# Altium integrated library Actel ProASIC3L.IntLib: 248 symbols (part 39 of 41)
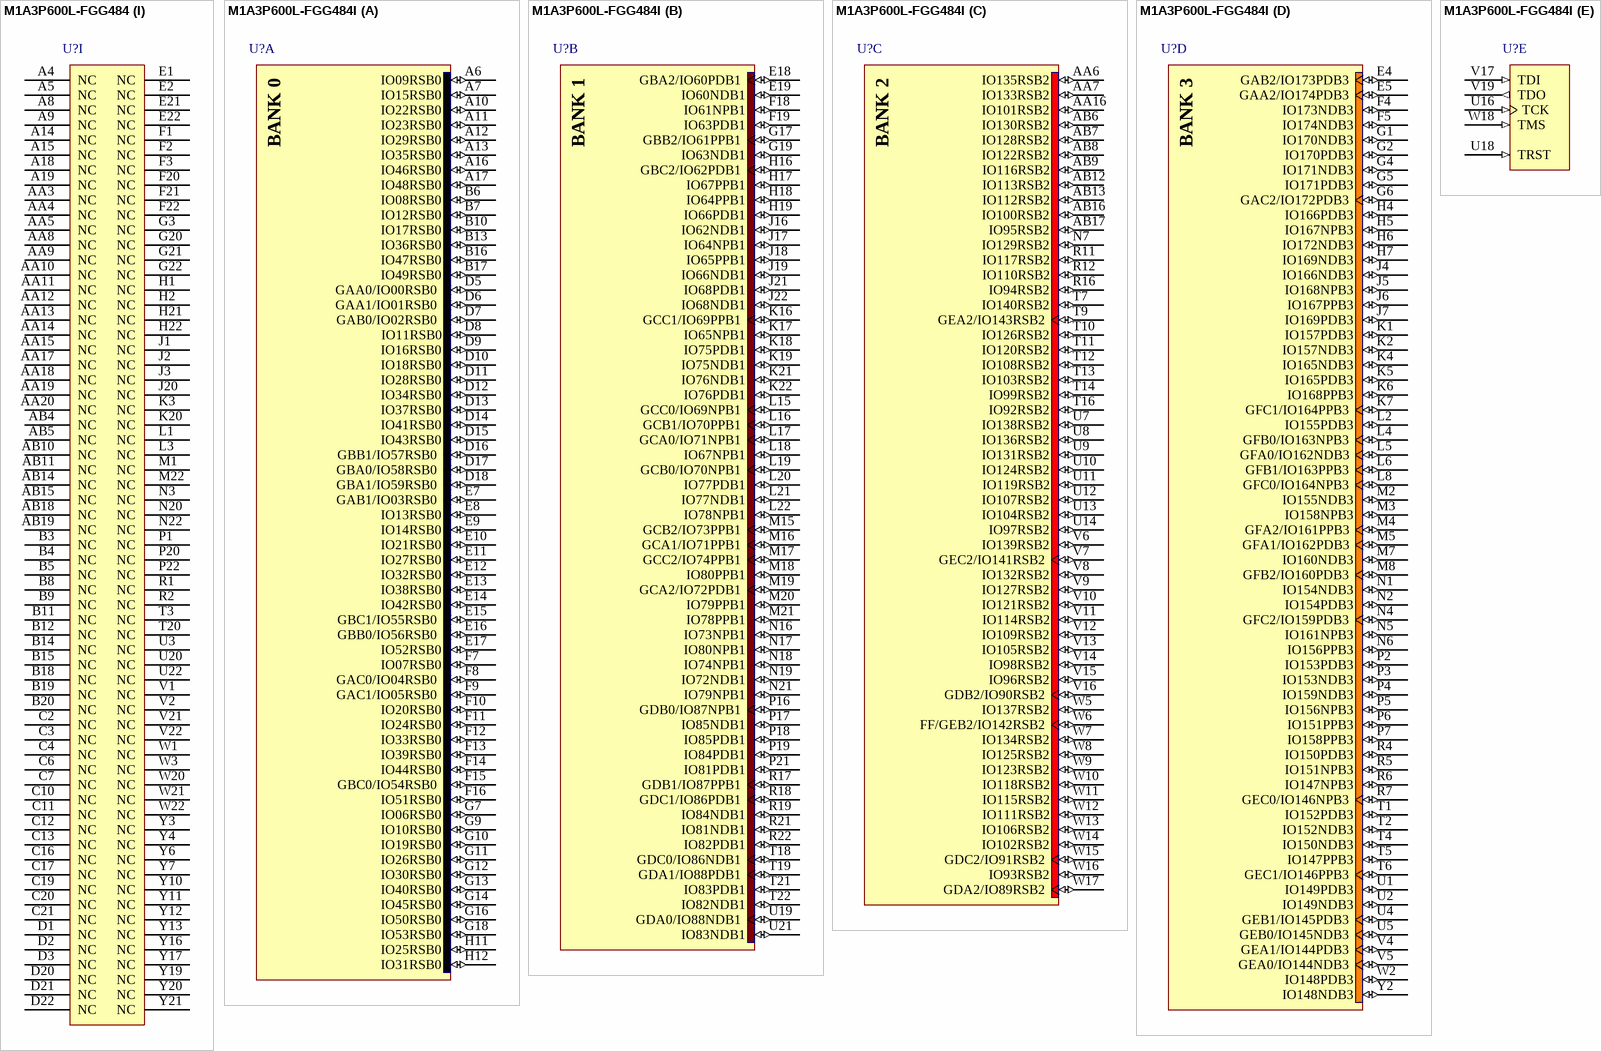
[diagram p236: symbols M1A3P600L-FGG484 to M1A3P600L-FGG484I]

## M1A3P600L-FGG484
designator U?
ProASIC3L Low-Power Flash Family FPGA, 235 User IOs, 600K System Gates, 108 Kbits RAM, 1 Kbit FlashROM, 1PLL, 484-Ball FBGA, Commercial Grade, Pb-Free; Published: 30-May-2008; DatasheetVersion: Jan-2008; PackageVersion: v10.0, Mar-2008; PackageReference: FG484; Publisher: Altium Limited; PackageDescription: 484-Ball Fine Pitch Plastic Ball Grid Array (FG484) - Fully Populated; Code_JEDEC: MS-034-AAJ-1; Code_IPC: BGA100P22X22-484; ComponentLink1Description: Manufacturer Link; ComponentLink1URL: http://www.actel.com/products/pa3l/default.aspx; ComponentLink2Description: Datasheet; ComponentLink2URL: http://www.actel.com/documents/PA3L_DS.pdf; ComponentLink3Description: Packaging Specification; ComponentLink3URL: http://www.actel.com/documents/PckgMechDrwngs.pdf
footprint FG484 (BGA, 484-Leads, Body 23x23mm, Pitch 1mm)
3D model M1A3P600L-FG484 (484-Ball Fine Pitch Plastic Ball Grid Array (FG484) - Fully Populated)
signal-integrity model A3P600L_FG484 (ProASIC3L)
part A pins: A6 IO09RSB0 (io), A7 IO15RSB0 (io), A10 IO22RSB0 (io), A11 IO23RSB0 (io), A12 IO29RSB0 (io), A13 IO35RSB0 (io), A16 IO46RSB0 (io), A17 IO48RSB0 (io), B6 IO08RSB0 (io), B7 IO12RSB0 (io), B10 IO17RSB0 (io), B13 IO36RSB0 (io), B16 IO47RSB0 (io), B17 IO49RSB0 (io), D5 GAA0/IO00RSB0 (io), D6 GAA1/IO01RSB0 (io), D7 GAB0/IO02RSB0 (io), D8 IO11RSB0 (io), D9 IO16RSB0 (io), D10 IO18RSB0 (io), D11 IO28RSB0 (io), D12 IO34RSB0 (io), D13 IO37RSB0 (io), D14 IO41RSB0 (io), D15 IO43RSB0 (io), D16 GBB1/IO57RSB0 (io), D17 GBA0/IO58RSB0 (io), D18 GBA1/IO59RSB0 (io), E7 GAB1/IO03RSB0 (io), E8 IO13RSB0 (io), E9 IO14RSB0 (io), E10 IO21RSB0 (io), E11 IO27RSB0 (io), E12 IO32RSB0 (io), E13 IO38RSB0 (io), E14 IO42RSB0 (io), E15 GBC1/IO55RSB0 (io), E16 GBB0/IO56RSB0 (io), E17 IO52RSB0 (io), F7 IO07RSB0 (io), F8 GAC0/IO04RSB0 (io), F9 GAC1/IO05RSB0 (io), F10 IO20RSB0 (io), F11 IO24RSB0 (io), F12 IO33RSB0 (io), F13 IO39RSB0 (io), F14 IO44RSB0 (io), F15 GBC0/IO54RSB0 (io), F16 IO51RSB0 (io), G7 IO06RSB0 (io), G9 IO10RSB0 (io), G10 IO19RSB0 (io), G11 IO26RSB0 (io), G12 IO30RSB0 (io), G13 IO40RSB0 (io), G14 IO45RSB0 (io), G16 IO50RSB0 (io), G18 IO53RSB0 (io), H11 IO25RSB0 (io), H12 IO31RSB0 (io)
part B pins: E18 GBA2/IO60PDB1 (io), E19 IO60NDB1 (io), F18 IO61NPB1 (io), F19 IO63PDB1 (io), G17 GBB2/IO61PPB1 (io), G19 IO63NDB1 (io), H16 GBC2/IO62PDB1 (io), H17 IO67PPB1 (io), H18 IO64PPB1 (io), H19 IO66PDB1 (io), J16 IO62NDB1 (io), J17 IO64NPB1 (io), J18 IO65PPB1 (io), J19 IO66NDB1 (io), J21 IO68PDB1 (io), J22 IO68NDB1 (io), K16 GCC1/IO69PPB1 (io), K17 IO65NPB1 (io), K18 IO75PDB1 (io), K19 IO75NDB1 (io), K21 IO76NDB1 (io), K22 IO76PDB1 (io), L15 GCC0/IO69NPB1 (io), L16 GCB1/IO70PPB1 (io), L17 GCA0/IO71NPB1 (io), L18 IO67NPB1 (io), L19 GCB0/IO70NPB1 (io), L20 IO77PDB1 (io), L21 IO77NDB1 (io), L22 IO78NPB1 (io), M15 GCB2/IO73PPB1 (io), M16 GCA1/IO71PPB1 (io), M17 GCC2/IO74PPB1 (io), M18 IO80PPB1 (io), M19 GCA2/IO72PDB1 (io), M20 IO79PPB1 (io), M21 IO78PPB1 (io), N16 IO73NPB1 (io), N17 IO80NPB1 (io), N18 IO74NPB1 (io), N19 IO72NDB1 (io), N21 IO79NPB1 (io), P16 GDB0/IO87NPB1 (io), P17 IO85NDB1 (io), P18 IO85PDB1 (io), P19 IO84PDB1 (io), P21 IO81PDB1 (io), R17 GDB1/IO87PPB1 (io), R18 GDC1/IO86PDB1 (io), R19 IO84NDB1 (io), R21 IO81NDB1 (io), R22 IO82PDB1 (io), T18 GDC0/IO86NDB1 (io), T19 GDA1/IO88PDB1 (io), T21 IO83PDB1 (io), T22 IO82NDB1 (io), U19 GDA0/IO88NDB1 (io), U21 IO83NDB1 (io)
part C pins: AA6 IO135RSB2 (io), AA7 IO133RSB2 (io), AA16 IO101RSB2 (io), AB6 IO130RSB2 (io), AB7 IO128RSB2 (io), AB8 IO122RSB2 (io), AB9 IO116RSB2 (io), AB12 IO113RSB2 (io), AB13 IO112RSB2 (io), AB16 IO100RSB2 (io), AB17 IO95RSB2 (io), N7 IO129RSB2 (io), R11 IO117RSB2 (io), R12 IO110RSB2 (io), R16 IO94RSB2 (io), T7 IO140RSB2 (io), T9 GEA2/IO143RSB2 (io), T10 IO126RSB2 (io), T11 IO120RSB2 (io), T12 IO108RSB2 (io), T13 IO103RSB2 (io), T14 IO99RSB2 (io), T16 IO92RSB2 (io), U7 IO138RSB2 (io), U8 IO136RSB2 (io), U9 IO131RSB2 (io), U10 IO124RSB2 (io), U11 IO119RSB2 (io), U12 IO107RSB2 (io), U13 IO104RSB2 (io), U14 IO97RSB2 (io), V6 IO139RSB2 (io), V7 GEC2/IO141RSB2 (io), V8 IO132RSB2 (io), V9 IO127RSB2 (io), V10 IO121RSB2 (io), V11 IO114RSB2 (io), V12 IO109RSB2 (io), V13 IO105RSB2 (io), V14 IO98RSB2 (io), V15 IO96RSB2 (io), V16 GDB2/IO90RSB2 (io), W5 IO137RSB2 (io), W6 FF/GEB2/IO142RSB2 (io), W7 IO134RSB2 (io), W8 IO125RSB2 (io), W9 IO123RSB2 (io), W10 IO118RSB2 (io), W11 IO115RSB2 (io), W12 IO111RSB2 (io), W13 IO106RSB2 (io), W14 IO102RSB2 (io), W15 GDC2/IO91RSB2 (io), W16 IO93RSB2 (io), W17 GDA2/IO89RSB2 (io)
part D pins: E4 GAB2/IO173PDB3 (io), E5 GAA2/IO174PDB3 (io), F4 IO173NDB3 (io), F5 IO174NDB3 (io), G1 IO170NDB3 (io), G2 IO170PDB3 (io), G4 IO171NDB3 (io), G5 IO171PDB3 (io), G6 GAC2/IO172PDB3 (io), H4 IO166PDB3 (io), H5 IO167NPB3 (io), H6 IO172NDB3 (io), H7 IO169NDB3 (io), J4 IO166NDB3 (io), J5 IO168NPB3 (io), J6 IO167PPB3 (io), J7 IO169PDB3 (io), K1 IO157PDB3 (io), K2 IO157NDB3 (io), K4 IO165NDB3 (io), K5 IO165PDB3 (io), K6 IO168PPB3 (io), K7 GFC1/IO164PPB3 (io), L2 IO155PDB3 (io), L4 GFB0/IO163NPB3 (io), L5 GFA0/IO162NDB3 (io), L6 GFB1/IO163PPB3 (io), L8 GFC0/IO164NPB3 (io), M2 IO155NDB3 (io), M3 IO158NPB3 (io), M4 GFA2/IO161PPB3 (io), M5 GFA1/IO162PDB3 (io), M7 IO160NDB3 (io), M8 GFB2/IO160PDB3 (io), N1 IO154NDB3 (io), N2 IO154PDB3 (io), N4 GFC2/IO159PDB3 (io), N5 IO161NPB3 (io), N6 IO156PPB3 (io), P2 IO153PDB3 (io), P3 IO153NDB3 (io), P4 IO159NDB3 (io), P5 IO156NPB3 (io), P6 IO151PPB3 (io), P7 IO158PPB3 (io), R4 IO150PDB3 (io), R5 IO151NPB3 (io), R6 IO147NPB3 (io), R7 GEC0/IO146NPB3 (io), T1 IO152PDB3 (io), T2 IO152NDB3 (io), T4 IO150NDB3 (io), T5 IO147PPB3 (io), T6 GEC1/IO146PPB3 (io), U1 IO149PDB3 (io), U2 IO149NDB3 (io), U4 GEB1/IO145PDB3 (io), U5 GEB0/IO145NDB3 (io), V4 GEA1/IO144PDB3 (io), V5 GEA0/IO144NDB3 (io), W2 IO148PDB3 (io), Y2 IO148NDB3 (io)
part E pins: U16 TCK (in), U18 TRST (in), V17 TDI (in), V19 TDO (out), W18 TMS (in)
part F pins: A3 VCCIB0 (power), A20 VCCIB0 (power), AA2 VCCIB3 (power), AA21 VCCIB1 (power), AB3 VCCIB2 (power), AB20 VCCIB2 (power), B2 VCCIB3 (power), B21 VCCIB1 (power), C1 VCCIB3 (power), C8 VCC (power), C9 VCC (power), C14 VCC (power), C15 VCC (power), C22 VCCIB1 (power), F6 VMV3 (power), F17 VMV0 (power), H3 VCC (power), H8 VMV0 (power), H9 VCCIB0 (power), H10 VCCIB0 (power), H13 VCCIB0 (power), H14 VCCIB0 (power), H15 VMV1 (power), H20 VCC (power), J8 VCCIB3 (power), J10 VCC (power), J11 VCC (power), J12 VCC (power), J13 VCC (power), J15 VCCIB1 (power), K8 VCCIB3 (power), K9 VCC (power), K14 VCC (power), K15 VvB1 (power), L9 VCC (power), L14 VCC (power), M9 VCC (power), M14 VCC (power), N8 VCCIB3 (power), N9 VCC (power), N14 VCC (power), N15 VCCIB1 (power), P8 VCCIB3 (power), P10 VCC (power), P11 VCC (power), P12 VCC (power), P13 VCC (power), P15 VCCIB1 (power), R3 VCC (power), R8 VMV3 (power), R9 VCCIB2 (power), R10 VCCIB2 (power), R13 VCCIB2 (power), R14 VCCIB2 (power), R15 VMV2 (power), R20 VCC (power), T17 VJTAG (power), U6 VMV2 (power), U15 VMV1 (power), U17 VPUMP (power), Y1 VCCIB3 (power), Y8 VCC (power), Y9 VCC (power), Y14 VCC (power), Y15 VCC (power), Y22 VCCIB1 (power)
part G pins: A1 GND (power), A2 GND (power), A21 GND (power), A22 GND (power), AA1 GND (power), AA22 GND (power), AB1 GND (power), AB2 GND (power), AB21 GND (power), AB22 GND (power), B1 GND (power), B22 GND (power), C5 GND (power), C18 GND (power), D4 GND (power), D19 GND (power), E3 GND (power), E6 GNDQ (power), E20 GND (power), G8 GNDQ (power), G15 GNDQ (power), J9 GND (power), J14 GND (power), K10 GND (power), K11 GND (power), K12 GND (power), K13 GND (power), L10 GND (power), L11 GND (power), L12 GND (power), L13 GND (power), M10 GND (power), M11 GND (power), M12 GND (power), M13 GND (power), N10 GND (power), N11 GND (power), N12 GND (power), N13 GND (power), P9 GND (power), P14 GND (power), T8 GNDQ (power), T15 GNDQ (power), V3 GND (power), V18 GNDQ (power), V20 GND (power), W4 GND (power), W19 GND (power), Y5 GND (power), Y18 GND (power)
part H pins: L7 VCOMPLF (power), M6 VCCPLF (power)
part I pins: A4 NC, A5 NC, A8 NC, A9 NC, A14 NC, A15 NC, A18 NC, A19 NC, AA3 NC, AA4 NC, AA5 NC, AA8 NC, AA9 NC, AA10 NC, AA11 NC, AA12 NC, AA13 NC, AA14 NC, AA15 NC, AA17 NC, AA18 NC, AA19 NC, AA20 NC, AB4 NC, AB5 NC, AB10 NC, AB11 NC, AB14 NC, AB15 NC, AB18 NC, AB19 NC, B3 NC, B4 NC, B5 NC, B8 NC, B9 NC, B11 NC, B12 NC, B14 NC, B15 NC, B18 NC, B19 NC, B20 NC, C2 NC, C3 NC, C4 NC, C6 NC, C7 NC, C10 NC, C11 NC, C12 NC, C13 NC, C16 NC, C17 NC, C19 NC, C20 NC, C21 NC, D1 NC, D2 NC, D3 NC, D20 NC, D21 NC, D22 NC, E1 NC, E2 NC, E21 NC, E22 NC, F1 NC, F2 NC, F3 NC, F20 NC, F21 NC, F22 NC, G3 NC, G20 NC, G21 NC, G22 NC, H1 NC, H2 NC, H21 NC, H22 NC, J1 NC, J2 NC, J3 NC, J20 NC, K3 NC, K20 NC, L1 NC, L3 NC, M1 NC, M22 NC, N3 NC, N20 NC, N22 NC, P1 NC, P20 NC, P22 NC, R1 NC, R2 NC, T3 NC, T20 NC, U3 NC, U20 NC, U22 NC, V1 NC, V2 NC, V21 NC, V22 NC, W1 NC, W3 NC, W20 NC, W21 NC, W22 NC, Y3 NC, Y4 NC, Y6 NC, Y7 NC, Y10 NC, Y11 NC, Y12 NC, Y13 NC, Y16 NC, Y17 NC, Y19 NC, Y20 NC, Y21 NC
part A text: BANK 0
part B text: BANK 1
part C text: BANK 2
part D text: BANK 3

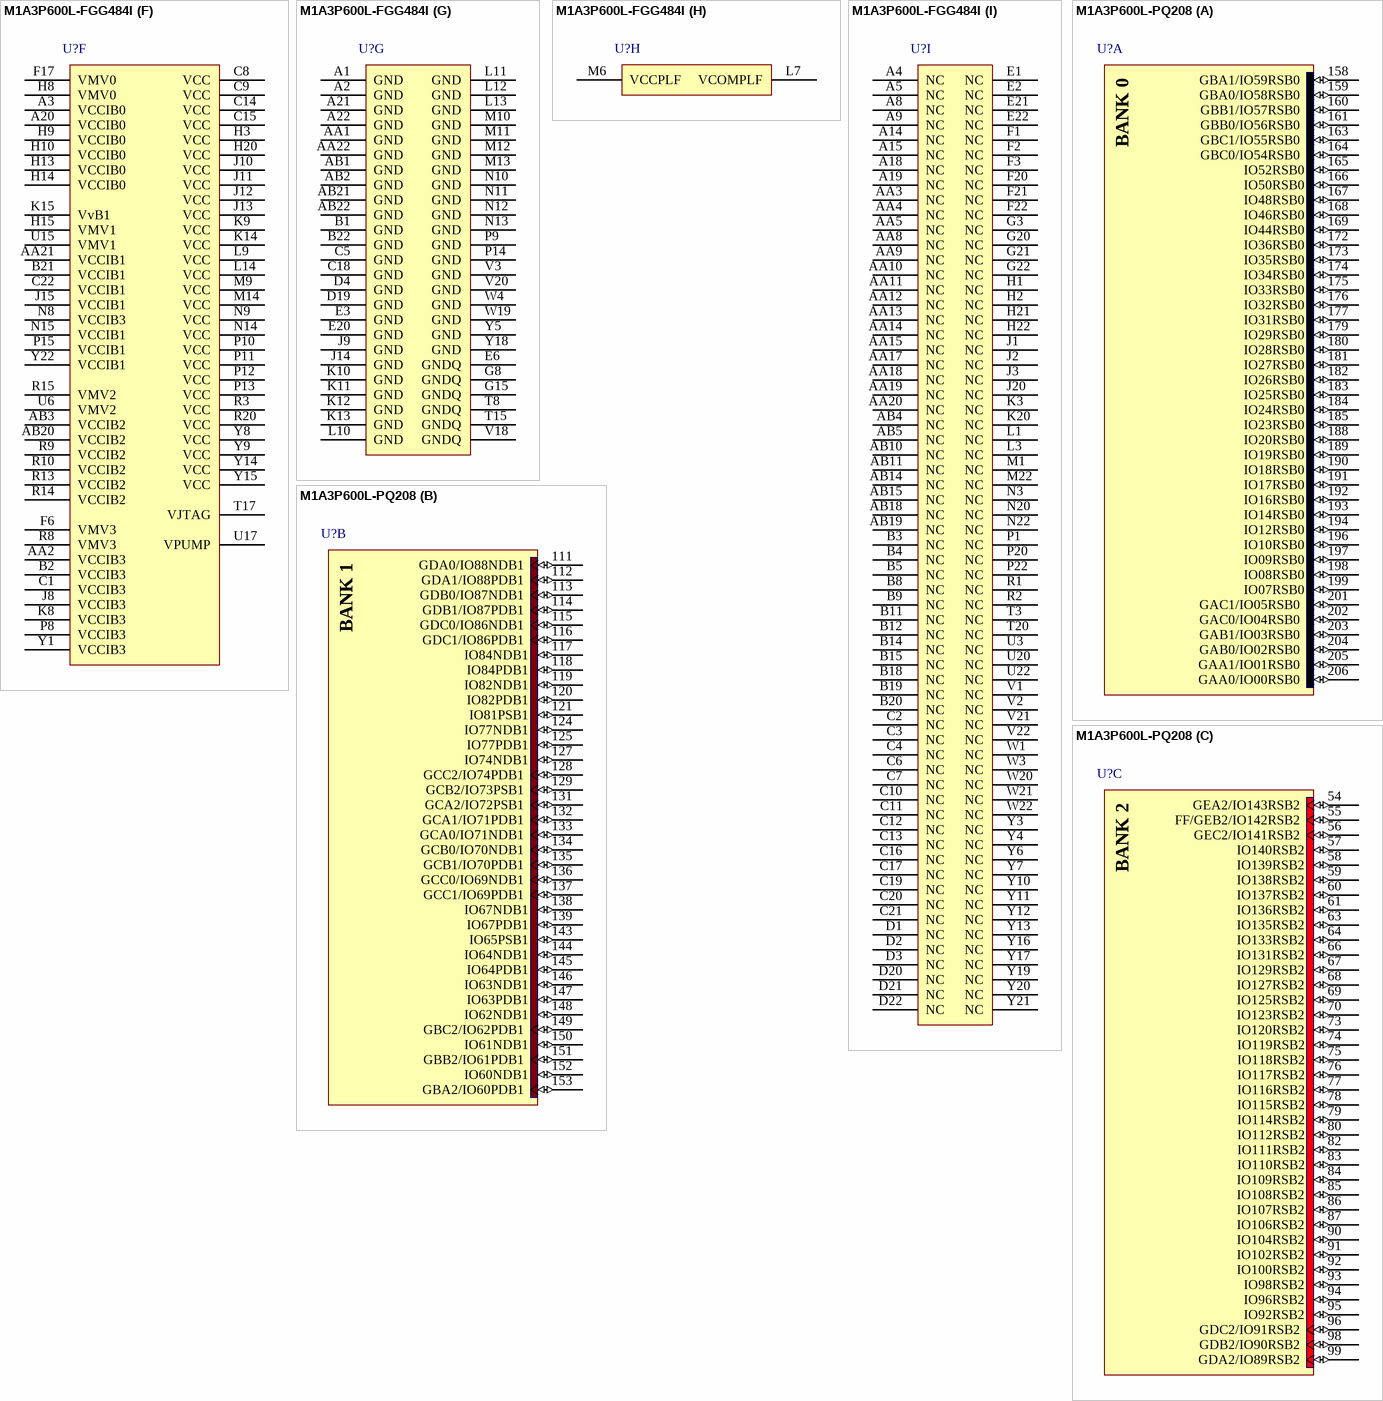
[diagram p143: symbols M1A3P600L-FGG484I to M1A3P600L-PQ208]

## M1A3P600L-FGG484I
designator U?
ProASIC3L Low-Power Flash Family FPGA, 235 User IOs, 600K System Gates, 108 Kbits RAM, 1 Kbit FlashROM, 1PLL, 484-Ball FBGA, Industrial Grade, Pb-Free; Published: 30-May-2008; DatasheetVersion: Jan-2008; PackageVersion: v10.0, Mar-2008; PackageReference: FG484; Publisher: Altium Limited; PackageDescription: 484-Ball Fine Pitch Plastic Ball Grid Array (FG484) - Fully Populated; Code_JEDEC: MS-034-AAJ-1; Code_IPC: BGA100P22X22-484; ComponentLink1Description: Manufacturer Link; ComponentLink1URL: http://www.actel.com/products/pa3l/default.aspx; ComponentLink2Description: Datasheet; ComponentLink2URL: http://www.actel.com/documents/PA3L_DS.pdf; ComponentLink3Description: Packaging Specification; ComponentLink3URL: http://www.actel.com/documents/PckgMechDrwngs.pdf
footprint FG484 (BGA, 484-Leads, Body 23x23mm, Pitch 1mm)
3D model M1A3P600L-FG484 (484-Ball Fine Pitch Plastic Ball Grid Array (FG484) - Fully Populated)
signal-integrity model A3P600L_FG484 (ProASIC3L)
part A pins: A6 IO09RSB0 (io), A7 IO15RSB0 (io), A10 IO22RSB0 (io), A11 IO23RSB0 (io), A12 IO29RSB0 (io), A13 IO35RSB0 (io), A16 IO46RSB0 (io), A17 IO48RSB0 (io), B6 IO08RSB0 (io), B7 IO12RSB0 (io), B10 IO17RSB0 (io), B13 IO36RSB0 (io), B16 IO47RSB0 (io), B17 IO49RSB0 (io), D5 GAA0/IO00RSB0 (io), D6 GAA1/IO01RSB0 (io), D7 GAB0/IO02RSB0 (io), D8 IO11RSB0 (io), D9 IO16RSB0 (io), D10 IO18RSB0 (io), D11 IO28RSB0 (io), D12 IO34RSB0 (io), D13 IO37RSB0 (io), D14 IO41RSB0 (io), D15 IO43RSB0 (io), D16 GBB1/IO57RSB0 (io), D17 GBA0/IO58RSB0 (io), D18 GBA1/IO59RSB0 (io), E7 GAB1/IO03RSB0 (io), E8 IO13RSB0 (io), E9 IO14RSB0 (io), E10 IO21RSB0 (io), E11 IO27RSB0 (io), E12 IO32RSB0 (io), E13 IO38RSB0 (io), E14 IO42RSB0 (io), E15 GBC1/IO55RSB0 (io), E16 GBB0/IO56RSB0 (io), E17 IO52RSB0 (io), F7 IO07RSB0 (io), F8 GAC0/IO04RSB0 (io), F9 GAC1/IO05RSB0 (io), F10 IO20RSB0 (io), F11 IO24RSB0 (io), F12 IO33RSB0 (io), F13 IO39RSB0 (io), F14 IO44RSB0 (io), F15 GBC0/IO54RSB0 (io), F16 IO51RSB0 (io), G7 IO06RSB0 (io), G9 IO10RSB0 (io), G10 IO19RSB0 (io), G11 IO26RSB0 (io), G12 IO30RSB0 (io), G13 IO40RSB0 (io), G14 IO45RSB0 (io), G16 IO50RSB0 (io), G18 IO53RSB0 (io), H11 IO25RSB0 (io), H12 IO31RSB0 (io)
part B pins: E18 GBA2/IO60PDB1 (io), E19 IO60NDB1 (io), F18 IO61NPB1 (io), F19 IO63PDB1 (io), G17 GBB2/IO61PPB1 (io), G19 IO63NDB1 (io), H16 GBC2/IO62PDB1 (io), H17 IO67PPB1 (io), H18 IO64PPB1 (io), H19 IO66PDB1 (io), J16 IO62NDB1 (io), J17 IO64NPB1 (io), J18 IO65PPB1 (io), J19 IO66NDB1 (io), J21 IO68PDB1 (io), J22 IO68NDB1 (io), K16 GCC1/IO69PPB1 (io), K17 IO65NPB1 (io), K18 IO75PDB1 (io), K19 IO75NDB1 (io), K21 IO76NDB1 (io), K22 IO76PDB1 (io), L15 GCC0/IO69NPB1 (io), L16 GCB1/IO70PPB1 (io), L17 GCA0/IO71NPB1 (io), L18 IO67NPB1 (io), L19 GCB0/IO70NPB1 (io), L20 IO77PDB1 (io), L21 IO77NDB1 (io), L22 IO78NPB1 (io), M15 GCB2/IO73PPB1 (io), M16 GCA1/IO71PPB1 (io), M17 GCC2/IO74PPB1 (io), M18 IO80PPB1 (io), M19 GCA2/IO72PDB1 (io), M20 IO79PPB1 (io), M21 IO78PPB1 (io), N16 IO73NPB1 (io), N17 IO80NPB1 (io), N18 IO74NPB1 (io), N19 IO72NDB1 (io), N21 IO79NPB1 (io), P16 GDB0/IO87NPB1 (io), P17 IO85NDB1 (io), P18 IO85PDB1 (io), P19 IO84PDB1 (io), P21 IO81PDB1 (io), R17 GDB1/IO87PPB1 (io), R18 GDC1/IO86PDB1 (io), R19 IO84NDB1 (io), R21 IO81NDB1 (io), R22 IO82PDB1 (io), T18 GDC0/IO86NDB1 (io), T19 GDA1/IO88PDB1 (io), T21 IO83PDB1 (io), T22 IO82NDB1 (io), U19 GDA0/IO88NDB1 (io), U21 IO83NDB1 (io)
part C pins: AA6 IO135RSB2 (io), AA7 IO133RSB2 (io), AA16 IO101RSB2 (io), AB6 IO130RSB2 (io), AB7 IO128RSB2 (io), AB8 IO122RSB2 (io), AB9 IO116RSB2 (io), AB12 IO113RSB2 (io), AB13 IO112RSB2 (io), AB16 IO100RSB2 (io), AB17 IO95RSB2 (io), N7 IO129RSB2 (io), R11 IO117RSB2 (io), R12 IO110RSB2 (io), R16 IO94RSB2 (io), T7 IO140RSB2 (io), T9 GEA2/IO143RSB2 (io), T10 IO126RSB2 (io), T11 IO120RSB2 (io), T12 IO108RSB2 (io), T13 IO103RSB2 (io), T14 IO99RSB2 (io), T16 IO92RSB2 (io), U7 IO138RSB2 (io), U8 IO136RSB2 (io), U9 IO131RSB2 (io), U10 IO124RSB2 (io), U11 IO119RSB2 (io), U12 IO107RSB2 (io), U13 IO104RSB2 (io), U14 IO97RSB2 (io), V6 IO139RSB2 (io), V7 GEC2/IO141RSB2 (io), V8 IO132RSB2 (io), V9 IO127RSB2 (io), V10 IO121RSB2 (io), V11 IO114RSB2 (io), V12 IO109RSB2 (io), V13 IO105RSB2 (io), V14 IO98RSB2 (io), V15 IO96RSB2 (io), V16 GDB2/IO90RSB2 (io), W5 IO137RSB2 (io), W6 FF/GEB2/IO142RSB2 (io), W7 IO134RSB2 (io), W8 IO125RSB2 (io), W9 IO123RSB2 (io), W10 IO118RSB2 (io), W11 IO115RSB2 (io), W12 IO111RSB2 (io), W13 IO106RSB2 (io), W14 IO102RSB2 (io), W15 GDC2/IO91RSB2 (io), W16 IO93RSB2 (io), W17 GDA2/IO89RSB2 (io)
part D pins: E4 GAB2/IO173PDB3 (io), E5 GAA2/IO174PDB3 (io), F4 IO173NDB3 (io), F5 IO174NDB3 (io), G1 IO170NDB3 (io), G2 IO170PDB3 (io), G4 IO171NDB3 (io), G5 IO171PDB3 (io), G6 GAC2/IO172PDB3 (io), H4 IO166PDB3 (io), H5 IO167NPB3 (io), H6 IO172NDB3 (io), H7 IO169NDB3 (io), J4 IO166NDB3 (io), J5 IO168NPB3 (io), J6 IO167PPB3 (io), J7 IO169PDB3 (io), K1 IO157PDB3 (io), K2 IO157NDB3 (io), K4 IO165NDB3 (io), K5 IO165PDB3 (io), K6 IO168PPB3 (io), K7 GFC1/IO164PPB3 (io), L2 IO155PDB3 (io), L4 GFB0/IO163NPB3 (io), L5 GFA0/IO162NDB3 (io), L6 GFB1/IO163PPB3 (io), L8 GFC0/IO164NPB3 (io), M2 IO155NDB3 (io), M3 IO158NPB3 (io), M4 GFA2/IO161PPB3 (io), M5 GFA1/IO162PDB3 (io), M7 IO160NDB3 (io), M8 GFB2/IO160PDB3 (io), N1 IO154NDB3 (io), N2 IO154PDB3 (io), N4 GFC2/IO159PDB3 (io), N5 IO161NPB3 (io), N6 IO156PPB3 (io), P2 IO153PDB3 (io), P3 IO153NDB3 (io), P4 IO159NDB3 (io), P5 IO156NPB3 (io), P6 IO151PPB3 (io), P7 IO158PPB3 (io), R4 IO150PDB3 (io), R5 IO151NPB3 (io), R6 IO147NPB3 (io), R7 GEC0/IO146NPB3 (io), T1 IO152PDB3 (io), T2 IO152NDB3 (io), T4 IO150NDB3 (io), T5 IO147PPB3 (io), T6 GEC1/IO146PPB3 (io), U1 IO149PDB3 (io), U2 IO149NDB3 (io), U4 GEB1/IO145PDB3 (io), U5 GEB0/IO145NDB3 (io), V4 GEA1/IO144PDB3 (io), V5 GEA0/IO144NDB3 (io), W2 IO148PDB3 (io), Y2 IO148NDB3 (io)
part E pins: U16 TCK (in), U18 TRST (in), V17 TDI (in), V19 TDO (out), W18 TMS (in)
part F pins: A3 VCCIB0 (power), A20 VCCIB0 (power), AA2 VCCIB3 (power), AA21 VCCIB1 (power), AB3 VCCIB2 (power), AB20 VCCIB2 (power), B2 VCCIB3 (power), B21 VCCIB1 (power), C1 VCCIB3 (power), C8 VCC (power), C9 VCC (power), C14 VCC (power), C15 VCC (power), C22 VCCIB1 (power), F6 VMV3 (power), F17 VMV0 (power), H3 VCC (power), H8 VMV0 (power), H9 VCCIB0 (power), H10 VCCIB0 (power), H13 VCCIB0 (power), H14 VCCIB0 (power), H15 VMV1 (power), H20 VCC (power), J8 VCCIB3 (power), J10 VCC (power), J11 VCC (power), J12 VCC (power), J13 VCC (power), J15 VCCIB1 (power), K8 VCCIB3 (power), K9 VCC (power), K14 VCC (power), K15 VvB1 (power), L9 VCC (power), L14 VCC (power), M9 VCC (power), M14 VCC (power), N8 VCCIB3 (power), N9 VCC (power), N14 VCC (power), N15 VCCIB1 (power), P8 VCCIB3 (power), P10 VCC (power), P11 VCC (power), P12 VCC (power), P13 VCC (power), P15 VCCIB1 (power), R3 VCC (power), R8 VMV3 (power), R9 VCCIB2 (power), R10 VCCIB2 (power), R13 VCCIB2 (power), R14 VCCIB2 (power), R15 VMV2 (power), R20 VCC (power), T17 VJTAG (power), U6 VMV2 (power), U15 VMV1 (power), U17 VPUMP (power), Y1 VCCIB3 (power), Y8 VCC (power), Y9 VCC (power), Y14 VCC (power), Y15 VCC (power), Y22 VCCIB1 (power)
part G pins: A1 GND (power), A2 GND (power), A21 GND (power), A22 GND (power), AA1 GND (power), AA22 GND (power), AB1 GND (power), AB2 GND (power), AB21 GND (power), AB22 GND (power), B1 GND (power), B22 GND (power), C5 GND (power), C18 GND (power), D4 GND (power), D19 GND (power), E3 GND (power), E6 GNDQ (power), E20 GND (power), G8 GNDQ (power), G15 GNDQ (power), J9 GND (power), J14 GND (power), K10 GND (power), K11 GND (power), K12 GND (power), K13 GND (power), L10 GND (power), L11 GND (power), L12 GND (power), L13 GND (power), M10 GND (power), M11 GND (power), M12 GND (power), M13 GND (power), N10 GND (power), N11 GND (power), N12 GND (power), N13 GND (power), P9 GND (power), P14 GND (power), T8 GNDQ (power), T15 GNDQ (power), V3 GND (power), V18 GNDQ (power), V20 GND (power), W4 GND (power), W19 GND (power), Y5 GND (power), Y18 GND (power)
part H pins: L7 VCOMPLF (power), M6 VCCPLF (power)
part I pins: A4 NC, A5 NC, A8 NC, A9 NC, A14 NC, A15 NC, A18 NC, A19 NC, AA3 NC, AA4 NC, AA5 NC, AA8 NC, AA9 NC, AA10 NC, AA11 NC, AA12 NC, AA13 NC, AA14 NC, AA15 NC, AA17 NC, AA18 NC, AA19 NC, AA20 NC, AB4 NC, AB5 NC, AB10 NC, AB11 NC, AB14 NC, AB15 NC, AB18 NC, AB19 NC, B3 NC, B4 NC, B5 NC, B8 NC, B9 NC, B11 NC, B12 NC, B14 NC, B15 NC, B18 NC, B19 NC, B20 NC, C2 NC, C3 NC, C4 NC, C6 NC, C7 NC, C10 NC, C11 NC, C12 NC, C13 NC, C16 NC, C17 NC, C19 NC, C20 NC, C21 NC, D1 NC, D2 NC, D3 NC, D20 NC, D21 NC, D22 NC, E1 NC, E2 NC, E21 NC, E22 NC, F1 NC, F2 NC, F3 NC, F20 NC, F21 NC, F22 NC, G3 NC, G20 NC, G21 NC, G22 NC, H1 NC, H2 NC, H21 NC, H22 NC, J1 NC, J2 NC, J3 NC, J20 NC, K3 NC, K20 NC, L1 NC, L3 NC, M1 NC, M22 NC, N3 NC, N20 NC, N22 NC, P1 NC, P20 NC, P22 NC, R1 NC, R2 NC, T3 NC, T20 NC, U3 NC, U20 NC, U22 NC, V1 NC, V2 NC, V21 NC, V22 NC, W1 NC, W3 NC, W20 NC, W21 NC, W22 NC, Y3 NC, Y4 NC, Y6 NC, Y7 NC, Y10 NC, Y11 NC, Y12 NC, Y13 NC, Y16 NC, Y17 NC, Y19 NC, Y20 NC, Y21 NC
part A text: BANK 0
part B text: BANK 1
part C text: BANK 2
part D text: BANK 3

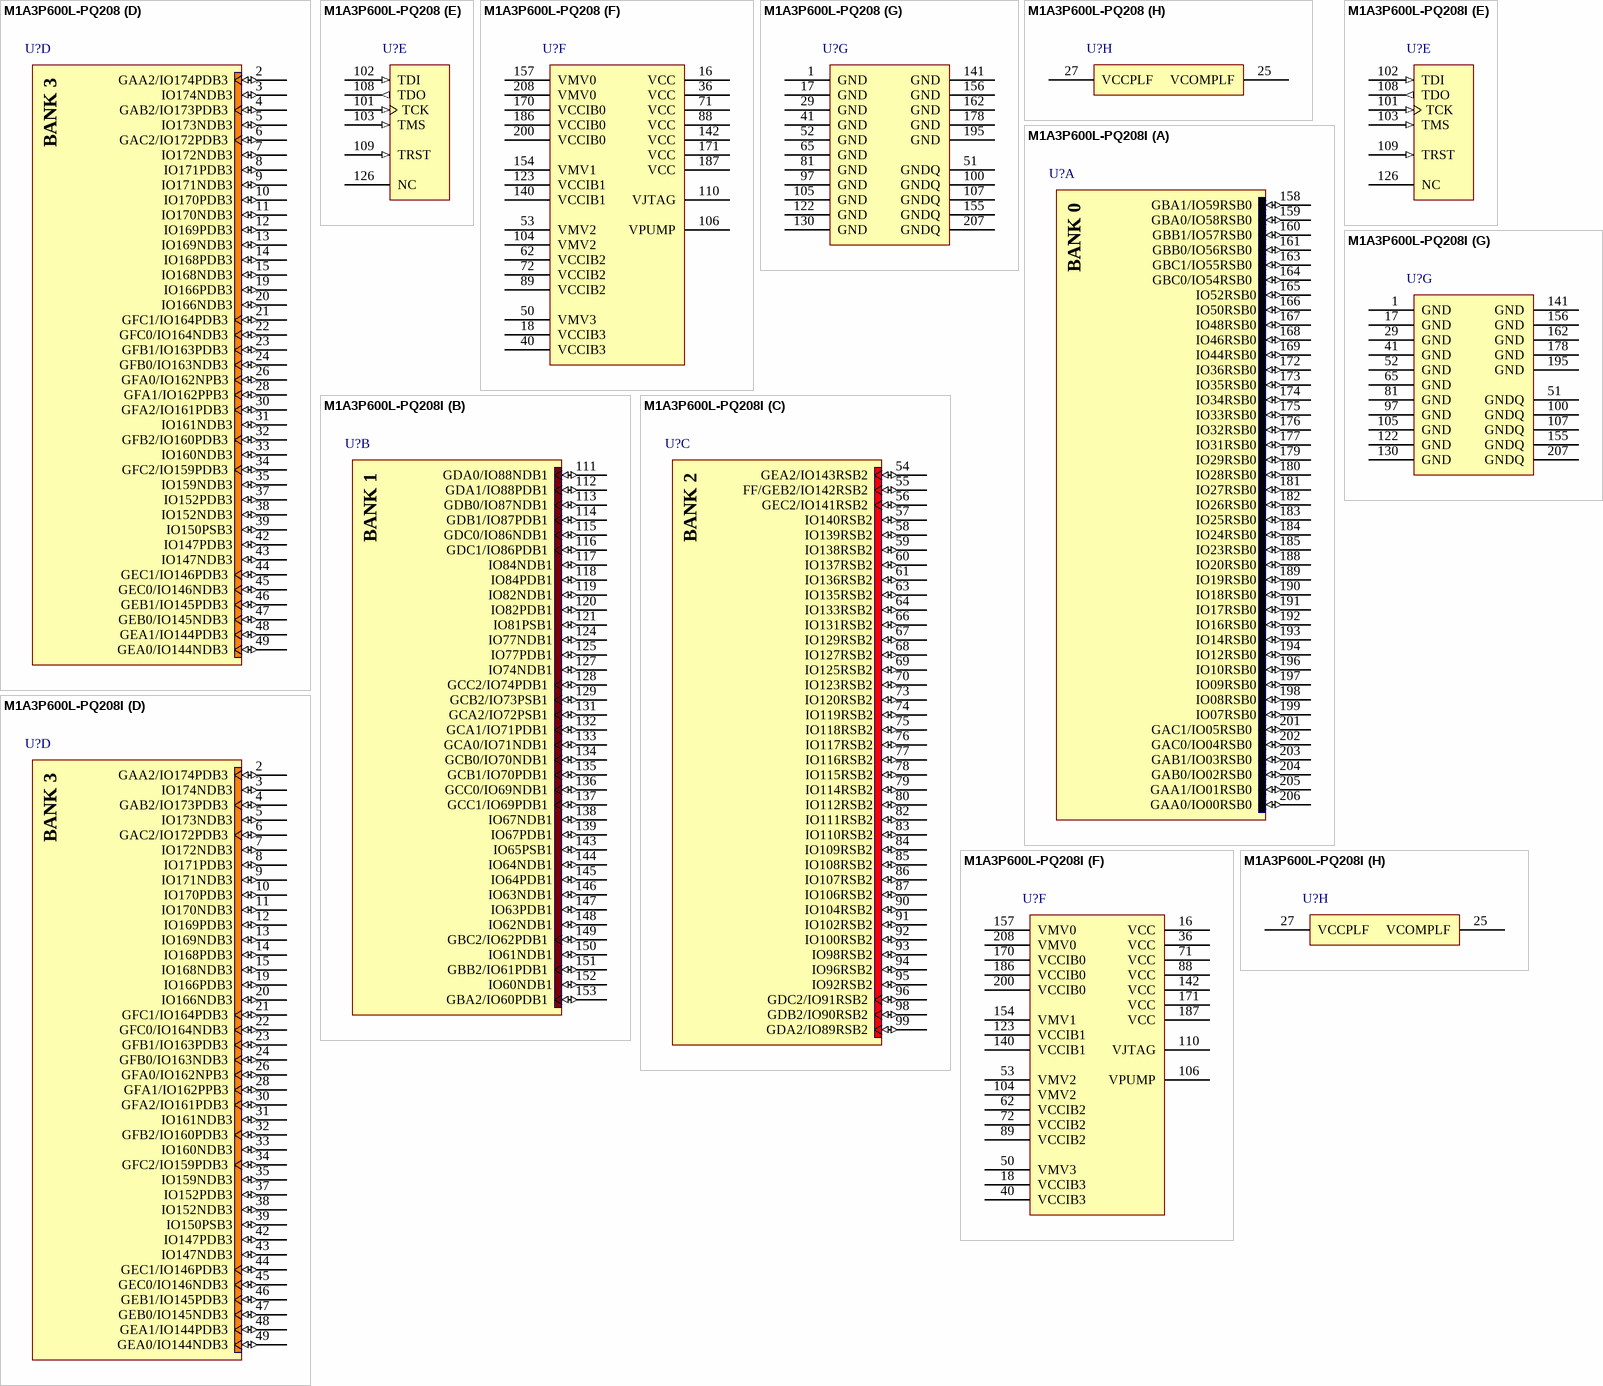
[diagram p144: symbols M1A3P600L-PQ208 to M1A3P600L-PQ208I]

## M1A3P600L-PQ208
designator U?
ProASIC3L Low-Power Flash Family FPGA, 154 User IOs, 600K System Gates, 108 Kbits RAM, 1 Kbit FlashROM, 1PLL, 208-Pin PQFP, Commercial Grade; Published: 30-May-2008; DatasheetVersion: Jan-2008; PackageVersion: v10.0, Mar-2008; PackageReference: PQ208; Publisher: Altium Limited; PackageDescription: 208-Pin Plastic Quad Flat Pack (PQ208); Code_JEDEC: MS-029-FA-1; ComponentLink1Description: Manufacturer Link; ComponentLink1URL: http://www.actel.com/products/pa3l/default.aspx; ComponentLink2Description: Datasheet; ComponentLink2URL: http://www.actel.com/documents/PA3L_DS.pdf; ComponentLink3Description: Packaging Specification; ComponentLink3URL: http://www.actel.com/documents/PckgMechDrwngs.pdf
footprint PQ208_N (Shrink QFP, 208-Leads, Body 28x28mm, Pitch 0.5mm, IPC Medium Density)
footprint PQ208_L (Shrink QFP, 208-Leads, Body 28x28mm, Pitch 0.5mm, IPC High Density)
footprint PQ208_M (Shrink QFP, 208-Leads, Body 28x28mm, Pitch 0.5mm, IPC Low Density)
3D model M1A3P600L-PQ208 (208-Pin Plastic Quad Flat Pack (PQ208))
signal-integrity model A3P600L_PQ208 (ProASIC3L)
part A pins: 158 GBA1/IO59RSB0 (io), 159 GBA0/IO58RSB0 (io), 160 GBB1/IO57RSB0 (io), 161 GBB0/IO56RSB0 (io), 163 GBC1/IO55RSB0 (io), 164 GBC0/IO54RSB0 (io), 165 IO52RSB0 (io), 166 IO50RSB0 (io), 167 IO48RSB0 (io), 168 IO46RSB0 (io), 169 IO44RSB0 (io), 172 IO36RSB0 (io), 173 IO35RSB0 (io), 174 IO34RSB0 (io), 175 IO33RSB0 (io), 176 IO32RSB0 (io), 177 IO31RSB0 (io), 179 IO29RSB0 (io), 180 IO28RSB0 (io), 181 IO27RSB0 (io), 182 IO26RSB0 (io), 183 IO25RSB0 (io), 184 IO24RSB0 (io), 185 IO23RSB0 (io), 188 IO20RSB0 (io), 189 IO19RSB0 (io), 190 IO18RSB0 (io), 191 IO17RSB0 (io), 192 IO16RSB0 (io), 193 IO14RSB0 (io), 194 IO12RSB0 (io), 196 IO10RSB0 (io), 197 IO09RSB0 (io), 198 IO08RSB0 (io), 199 IO07RSB0 (io), 201 GAC1/IO05RSB0 (io), 202 GAC0/IO04RSB0 (io), 203 GAB1/IO03RSB0 (io), 204 GAB0/IO02RSB0 (io), 205 GAA1/IO01RSB0 (io), 206 GAA0/IO00RSB0 (io)
part B pins: 111 GDA0/IO88NDB1 (io), 112 GDA1/IO88PDB1 (io), 113 GDB0/IO87NDB1 (io), 114 GDB1/IO87PDB1 (io), 115 GDC0/IO86NDB1 (io), 116 GDC1/IO86PDB1 (io), 117 IO84NDB1 (io), 118 IO84PDB1 (io), 119 IO82NDB1 (io), 120 IO82PDB1 (io), 121 IO81PSB1 (io), 124 IO77NDB1 (io), 125 IO77PDB1 (io), 127 IO74NDB1 (io), 128 GCC2/IO74PDB1 (io), 129 GCB2/IO73PSB1 (io), 131 GCA2/IO72PSB1 (io), 132 GCA1/IO71PDB1 (io), 133 GCA0/IO71NDB1 (io), 134 GCB0/IO70NDB1 (io), 135 GCB1/IO70PDB1 (io), 136 GCC0/IO69NDB1 (io), 137 GCC1/IO69PDB1 (io), 138 IO67NDB1 (io), 139 IO67PDB1 (io), 143 IO65PSB1 (io), 144 IO64NDB1 (io), 145 IO64PDB1 (io), 146 IO63NDB1 (io), 147 IO63PDB1 (io), 148 IO62NDB1 (io), 149 GBC2/IO62PDB1 (io), 150 IO61NDB1 (io), 151 GBB2/IO61PDB1 (io), 152 IO60NDB1 (io), 153 GBA2/IO60PDB1 (io)
part C pins: 54 GEA2/IO143RSB2 (io), 55 FF/GEB2/IO142RSB2 (io), 56 GEC2/IO141RSB2 (io), 57 IO140RSB2 (io), 58 IO139RSB2 (io), 59 IO138RSB2 (io), 60 IO137RSB2 (io), 61 IO136RSB2 (io), 63 IO135RSB2 (io), 64 IO133RSB2 (io), 66 IO131RSB2 (io), 67 IO129RSB2 (io), 68 IO127RSB2 (io), 69 IO125RSB2 (io), 70 IO123RSB2 (io), 73 IO120RSB2 (io), 74 IO119RSB2 (io), 75 IO118RSB2 (io), 76 IO117RSB2 (io), 77 IO116RSB2 (io), 78 IO115RSB2 (io), 79 IO114RSB2 (io), 80 IO112RSB2 (io), 82 IO111RSB2 (io), 83 IO110RSB2 (io), 84 IO109RSB2 (io), 85 IO108RSB2 (io), 86 IO107RSB2 (io), 87 IO106RSB2 (io), 90 IO104RSB2 (io), 91 IO102RSB2 (io), 92 IO100RSB2 (io), 93 IO98RSB2 (io), 94 IO96RSB2 (io), 95 IO92RSB2 (io), 96 GDC2/IO91RSB2 (io), 98 GDB2/IO90RSB2 (io), 99 GDA2/IO89RSB2 (io)
part D pins: 2 GAA2/IO174PDB3 (io), 3 IO174NDB3 (io), 4 GAB2/IO173PDB3 (io), 5 IO173NDB3 (io), 6 GAC2/IO172PDB3 (io), 7 IO172NDB3 (io), 8 IO171PDB3 (io), 9 IO171NDB3 (io), 10 IO170PDB3 (io), 11 IO170NDB3 (io), 12 IO169PDB3 (io), 13 IO169NDB3 (io), 14 IO168PDB3 (io), 15 IO168NDB3 (io), 19 IO166PDB3 (io), 20 IO166NDB3 (io), 21 GFC1/IO164PDB3 (io), 22 GFC0/IO164NDB3 (io), 23 GFB1/IO163PDB3 (io), 24 GFB0/IO163NDB3 (io), 26 GFA0/IO162NPB3 (io), 28 GFA1/IO162PPB3 (io), 30 GFA2/IO161PDB3 (io), 31 IO161NDB3 (io), 32 GFB2/IO160PDB3 (io), 33 IO160NDB3 (io), 34 GFC2/IO159PDB3 (io), 35 IO159NDB3 (io), 37 IO152PDB3 (io), 38 IO152NDB3 (io), 39 IO150PSB3 (io), 42 IO147PDB3 (io), 43 IO147NDB3 (io), 44 GEC1/IO146PDB3 (io), 45 GEC0/IO146NDB3 (io), 46 GEB1/IO145PDB3 (io), 47 GEB0/IO145NDB3 (io), 48 GEA1/IO144PDB3 (io), 49 GEA0/IO144NDB3 (io)
part E pins: 101 TCK (in), 102 TDI (in), 103 TMS (in), 108 TDO (out), 109 TRST (in), 126 NC
part F pins: 16 VCC (power), 18 VCCIB3 (power), 36 VCC (power), 40 VCCIB3 (power), 50 VMV3 (power), 53 VMV2 (power), 62 VCCIB2 (power), 71 VCC (power), 72 VCCIB2 (power), 88 VCC (power), 89 VCCIB2 (power), 104 VMV2 (power), 106 VPUMP (power), 110 VJTAG (power), 123 VCCIB1 (power), 140 VCCIB1 (power), 142 VCC (power), 154 VMV1 (power), 157 VMV0 (power), 170 VCCIB0 (power), 171 VCC (power), 186 VCCIB0 (power), 187 VCC (power), 200 VCCIB0 (power), 208 VMV0 (power)
part G pins: 1 GND (power), 17 GND (power), 29 GND (power), 41 GND (power), 51 GNDQ (power), 52 GND (power), 65 GND (power), 81 GND (power), 97 GND (power), 100 GNDQ (power), 105 GND (power), 107 GNDQ (power), 122 GND (power), 130 GND (power), 141 GND (power), 155 GNDQ (power), 156 GND (power), 162 GND (power), 178 GND (power), 195 GND (power), 207 GNDQ (power)
part H pins: 25 VCOMPLF (power), 27 VCCPLF (power)
part A text: BANK 0
part B text: BANK 1
part C text: BANK 2
part D text: BANK 3

## M1A3P600L-PQ208I
designator U?
ProASIC3L Low-Power Flash Family FPGA, 154 User IOs, 600K System Gates, 108 Kbits RAM, 1 Kbit FlashROM, 1PLL, 208-Pin PQFP, Industrial Grade; Published: 30-May-2008; DatasheetVersion: Jan-2008; PackageVersion: v10.0, Mar-2008; PackageReference: PQ208; Publisher: Altium Limited; PackageDescription: 208-Pin Plastic Quad Flat Pack (PQ208); Code_JEDEC: MS-029-FA-1; ComponentLink1Description: Manufacturer Link; ComponentLink1URL: http://www.actel.com/products/pa3l/default.aspx; ComponentLink2Description: Datasheet; ComponentLink2URL: http://www.actel.com/documents/PA3L_DS.pdf; ComponentLink3Description: Packaging Specification; ComponentLink3URL: http://www.actel.com/documents/PckgMechDrwngs.pdf
footprint PQ208_N (Shrink QFP, 208-Leads, Body 28x28mm, Pitch 0.5mm, IPC Medium Density)
footprint PQ208_L (Shrink QFP, 208-Leads, Body 28x28mm, Pitch 0.5mm, IPC High Density)
footprint PQ208_M (Shrink QFP, 208-Leads, Body 28x28mm, Pitch 0.5mm, IPC Low Density)
3D model M1A3P600L-PQ208 (208-Pin Plastic Quad Flat Pack (PQ208))
signal-integrity model A3P600L_PQ208 (ProASIC3L)
part A pins: 158 GBA1/IO59RSB0 (io), 159 GBA0/IO58RSB0 (io), 160 GBB1/IO57RSB0 (io), 161 GBB0/IO56RSB0 (io), 163 GBC1/IO55RSB0 (io), 164 GBC0/IO54RSB0 (io), 165 IO52RSB0 (io), 166 IO50RSB0 (io), 167 IO48RSB0 (io), 168 IO46RSB0 (io), 169 IO44RSB0 (io), 172 IO36RSB0 (io), 173 IO35RSB0 (io), 174 IO34RSB0 (io), 175 IO33RSB0 (io), 176 IO32RSB0 (io), 177 IO31RSB0 (io), 179 IO29RSB0 (io), 180 IO28RSB0 (io), 181 IO27RSB0 (io), 182 IO26RSB0 (io), 183 IO25RSB0 (io), 184 IO24RSB0 (io), 185 IO23RSB0 (io), 188 IO20RSB0 (io), 189 IO19RSB0 (io), 190 IO18RSB0 (io), 191 IO17RSB0 (io), 192 IO16RSB0 (io), 193 IO14RSB0 (io), 194 IO12RSB0 (io), 196 IO10RSB0 (io), 197 IO09RSB0 (io), 198 IO08RSB0 (io), 199 IO07RSB0 (io), 201 GAC1/IO05RSB0 (io), 202 GAC0/IO04RSB0 (io), 203 GAB1/IO03RSB0 (io), 204 GAB0/IO02RSB0 (io), 205 GAA1/IO01RSB0 (io), 206 GAA0/IO00RSB0 (io)
part B pins: 111 GDA0/IO88NDB1 (io), 112 GDA1/IO88PDB1 (io), 113 GDB0/IO87NDB1 (io), 114 GDB1/IO87PDB1 (io), 115 GDC0/IO86NDB1 (io), 116 GDC1/IO86PDB1 (io), 117 IO84NDB1 (io), 118 IO84PDB1 (io), 119 IO82NDB1 (io), 120 IO82PDB1 (io), 121 IO81PSB1 (io), 124 IO77NDB1 (io), 125 IO77PDB1 (io), 127 IO74NDB1 (io), 128 GCC2/IO74PDB1 (io), 129 GCB2/IO73PSB1 (io), 131 GCA2/IO72PSB1 (io), 132 GCA1/IO71PDB1 (io), 133 GCA0/IO71NDB1 (io), 134 GCB0/IO70NDB1 (io), 135 GCB1/IO70PDB1 (io), 136 GCC0/IO69NDB1 (io), 137 GCC1/IO69PDB1 (io), 138 IO67NDB1 (io), 139 IO67PDB1 (io), 143 IO65PSB1 (io), 144 IO64NDB1 (io), 145 IO64PDB1 (io), 146 IO63NDB1 (io), 147 IO63PDB1 (io), 148 IO62NDB1 (io), 149 GBC2/IO62PDB1 (io), 150 IO61NDB1 (io), 151 GBB2/IO61PDB1 (io), 152 IO60NDB1 (io), 153 GBA2/IO60PDB1 (io)
part C pins: 54 GEA2/IO143RSB2 (io), 55 FF/GEB2/IO142RSB2 (io), 56 GEC2/IO141RSB2 (io), 57 IO140RSB2 (io), 58 IO139RSB2 (io), 59 IO138RSB2 (io), 60 IO137RSB2 (io), 61 IO136RSB2 (io), 63 IO135RSB2 (io), 64 IO133RSB2 (io), 66 IO131RSB2 (io), 67 IO129RSB2 (io), 68 IO127RSB2 (io), 69 IO125RSB2 (io), 70 IO123RSB2 (io), 73 IO120RSB2 (io), 74 IO119RSB2 (io), 75 IO118RSB2 (io), 76 IO117RSB2 (io), 77 IO116RSB2 (io), 78 IO115RSB2 (io), 79 IO114RSB2 (io), 80 IO112RSB2 (io), 82 IO111RSB2 (io), 83 IO110RSB2 (io), 84 IO109RSB2 (io), 85 IO108RSB2 (io), 86 IO107RSB2 (io), 87 IO106RSB2 (io), 90 IO104RSB2 (io), 91 IO102RSB2 (io), 92 IO100RSB2 (io), 93 IO98RSB2 (io), 94 IO96RSB2 (io), 95 IO92RSB2 (io), 96 GDC2/IO91RSB2 (io), 98 GDB2/IO90RSB2 (io), 99 GDA2/IO89RSB2 (io)
part D pins: 2 GAA2/IO174PDB3 (io), 3 IO174NDB3 (io), 4 GAB2/IO173PDB3 (io), 5 IO173NDB3 (io), 6 GAC2/IO172PDB3 (io), 7 IO172NDB3 (io), 8 IO171PDB3 (io), 9 IO171NDB3 (io), 10 IO170PDB3 (io), 11 IO170NDB3 (io), 12 IO169PDB3 (io), 13 IO169NDB3 (io), 14 IO168PDB3 (io), 15 IO168NDB3 (io), 19 IO166PDB3 (io), 20 IO166NDB3 (io), 21 GFC1/IO164PDB3 (io), 22 GFC0/IO164NDB3 (io), 23 GFB1/IO163PDB3 (io), 24 GFB0/IO163NDB3 (io), 26 GFA0/IO162NPB3 (io), 28 GFA1/IO162PPB3 (io), 30 GFA2/IO161PDB3 (io), 31 IO161NDB3 (io), 32 GFB2/IO160PDB3 (io), 33 IO160NDB3 (io), 34 GFC2/IO159PDB3 (io), 35 IO159NDB3 (io), 37 IO152PDB3 (io), 38 IO152NDB3 (io), 39 IO150PSB3 (io), 42 IO147PDB3 (io), 43 IO147NDB3 (io), 44 GEC1/IO146PDB3 (io), 45 GEC0/IO146NDB3 (io), 46 GEB1/IO145PDB3 (io), 47 GEB0/IO145NDB3 (io), 48 GEA1/IO144PDB3 (io), 49 GEA0/IO144NDB3 (io)
part E pins: 101 TCK (in), 102 TDI (in), 103 TMS (in), 108 TDO (out), 109 TRST (in), 126 NC
part F pins: 16 VCC (power), 18 VCCIB3 (power), 36 VCC (power), 40 VCCIB3 (power), 50 VMV3 (power), 53 VMV2 (power), 62 VCCIB2 (power), 71 VCC (power), 72 VCCIB2 (power), 88 VCC (power), 89 VCCIB2 (power), 104 VMV2 (power), 106 VPUMP (power), 110 VJTAG (power), 123 VCCIB1 (power), 140 VCCIB1 (power), 142 VCC (power), 154 VMV1 (power), 157 VMV0 (power), 170 VCCIB0 (power), 171 VCC (power), 186 VCCIB0 (power), 187 VCC (power), 200 VCCIB0 (power), 208 VMV0 (power)
part G pins: 1 GND (power), 17 GND (power), 29 GND (power), 41 GND (power), 51 GNDQ (power), 52 GND (power), 65 GND (power), 81 GND (power), 97 GND (power), 100 GNDQ (power), 105 GND (power), 107 GNDQ (power), 122 GND (power), 130 GND (power), 141 GND (power), 155 GNDQ (power), 156 GND (power), 162 GND (power), 178 GND (power), 195 GND (power), 207 GNDQ (power)
part H pins: 25 VCOMPLF (power), 27 VCCPLF (power)
part A text: BANK 0
part B text: BANK 1
part C text: BANK 2
part D text: BANK 3

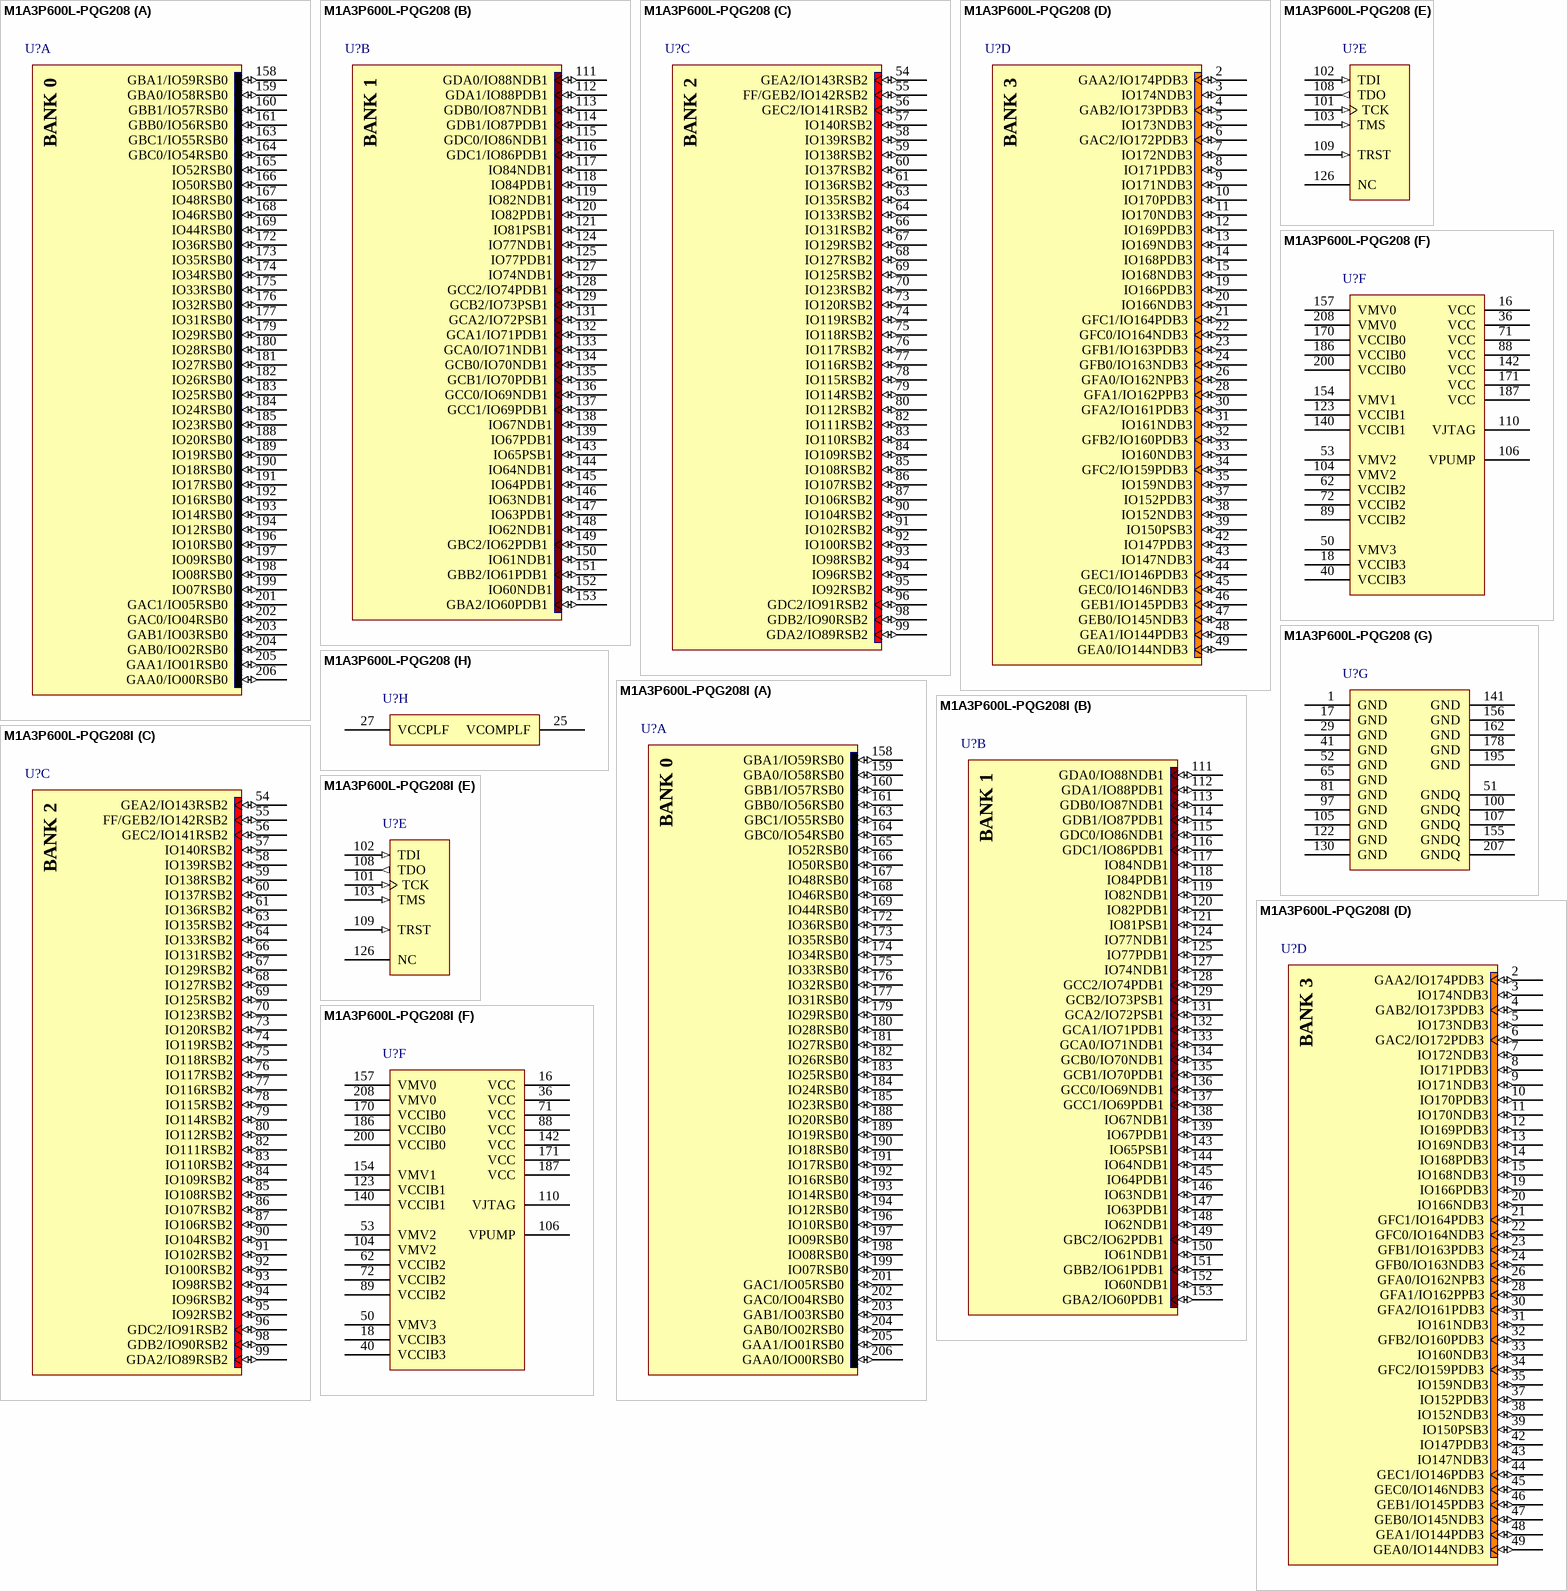
[diagram p145: symbols M1A3P600L-PQG208 to M1A3P600L-PQG208I]

## M1A3P600L-PQG208
designator U?
ProASIC3L Low-Power Flash Family FPGA, 154 User IOs, 600K System Gates, 108 Kbits RAM, 1 Kbit FlashROM, 1PLL, 208-Pin PQFP, Commercial Grade, Pb-Free; Published: 30-May-2008; DatasheetVersion: Jan-2008; PackageVersion: v10.0, Mar-2008; PackageReference: PQ208; Publisher: Altium Limited; PackageDescription: 208-Pin Plastic Quad Flat Pack (PQ208); Code_JEDEC: MS-029-FA-1; ComponentLink1Description: Manufacturer Link; ComponentLink1URL: http://www.actel.com/products/pa3l/default.aspx; ComponentLink2Description: Datasheet; ComponentLink2URL: http://www.actel.com/documents/PA3L_DS.pdf; ComponentLink3Description: Packaging Specification; ComponentLink3URL: http://www.actel.com/documents/PckgMechDrwngs.pdf
footprint PQ208_N (Shrink QFP, 208-Leads, Body 28x28mm, Pitch 0.5mm, IPC Medium Density)
footprint PQ208_L (Shrink QFP, 208-Leads, Body 28x28mm, Pitch 0.5mm, IPC High Density)
footprint PQ208_M (Shrink QFP, 208-Leads, Body 28x28mm, Pitch 0.5mm, IPC Low Density)
3D model M1A3P600L-PQ208 (208-Pin Plastic Quad Flat Pack (PQ208))
signal-integrity model A3P600L_PQ208 (ProASIC3L)
part A pins: 158 GBA1/IO59RSB0 (io), 159 GBA0/IO58RSB0 (io), 160 GBB1/IO57RSB0 (io), 161 GBB0/IO56RSB0 (io), 163 GBC1/IO55RSB0 (io), 164 GBC0/IO54RSB0 (io), 165 IO52RSB0 (io), 166 IO50RSB0 (io), 167 IO48RSB0 (io), 168 IO46RSB0 (io), 169 IO44RSB0 (io), 172 IO36RSB0 (io), 173 IO35RSB0 (io), 174 IO34RSB0 (io), 175 IO33RSB0 (io), 176 IO32RSB0 (io), 177 IO31RSB0 (io), 179 IO29RSB0 (io), 180 IO28RSB0 (io), 181 IO27RSB0 (io), 182 IO26RSB0 (io), 183 IO25RSB0 (io), 184 IO24RSB0 (io), 185 IO23RSB0 (io), 188 IO20RSB0 (io), 189 IO19RSB0 (io), 190 IO18RSB0 (io), 191 IO17RSB0 (io), 192 IO16RSB0 (io), 193 IO14RSB0 (io), 194 IO12RSB0 (io), 196 IO10RSB0 (io), 197 IO09RSB0 (io), 198 IO08RSB0 (io), 199 IO07RSB0 (io), 201 GAC1/IO05RSB0 (io), 202 GAC0/IO04RSB0 (io), 203 GAB1/IO03RSB0 (io), 204 GAB0/IO02RSB0 (io), 205 GAA1/IO01RSB0 (io), 206 GAA0/IO00RSB0 (io)
part B pins: 111 GDA0/IO88NDB1 (io), 112 GDA1/IO88PDB1 (io), 113 GDB0/IO87NDB1 (io), 114 GDB1/IO87PDB1 (io), 115 GDC0/IO86NDB1 (io), 116 GDC1/IO86PDB1 (io), 117 IO84NDB1 (io), 118 IO84PDB1 (io), 119 IO82NDB1 (io), 120 IO82PDB1 (io), 121 IO81PSB1 (io), 124 IO77NDB1 (io), 125 IO77PDB1 (io), 127 IO74NDB1 (io), 128 GCC2/IO74PDB1 (io), 129 GCB2/IO73PSB1 (io), 131 GCA2/IO72PSB1 (io), 132 GCA1/IO71PDB1 (io), 133 GCA0/IO71NDB1 (io), 134 GCB0/IO70NDB1 (io), 135 GCB1/IO70PDB1 (io), 136 GCC0/IO69NDB1 (io), 137 GCC1/IO69PDB1 (io), 138 IO67NDB1 (io), 139 IO67PDB1 (io), 143 IO65PSB1 (io), 144 IO64NDB1 (io), 145 IO64PDB1 (io), 146 IO63NDB1 (io), 147 IO63PDB1 (io), 148 IO62NDB1 (io), 149 GBC2/IO62PDB1 (io), 150 IO61NDB1 (io), 151 GBB2/IO61PDB1 (io), 152 IO60NDB1 (io), 153 GBA2/IO60PDB1 (io)
part C pins: 54 GEA2/IO143RSB2 (io), 55 FF/GEB2/IO142RSB2 (io), 56 GEC2/IO141RSB2 (io), 57 IO140RSB2 (io), 58 IO139RSB2 (io), 59 IO138RSB2 (io), 60 IO137RSB2 (io), 61 IO136RSB2 (io), 63 IO135RSB2 (io), 64 IO133RSB2 (io), 66 IO131RSB2 (io), 67 IO129RSB2 (io), 68 IO127RSB2 (io), 69 IO125RSB2 (io), 70 IO123RSB2 (io), 73 IO120RSB2 (io), 74 IO119RSB2 (io), 75 IO118RSB2 (io), 76 IO117RSB2 (io), 77 IO116RSB2 (io), 78 IO115RSB2 (io), 79 IO114RSB2 (io), 80 IO112RSB2 (io), 82 IO111RSB2 (io), 83 IO110RSB2 (io), 84 IO109RSB2 (io), 85 IO108RSB2 (io), 86 IO107RSB2 (io), 87 IO106RSB2 (io), 90 IO104RSB2 (io), 91 IO102RSB2 (io), 92 IO100RSB2 (io), 93 IO98RSB2 (io), 94 IO96RSB2 (io), 95 IO92RSB2 (io), 96 GDC2/IO91RSB2 (io), 98 GDB2/IO90RSB2 (io), 99 GDA2/IO89RSB2 (io)
part D pins: 2 GAA2/IO174PDB3 (io), 3 IO174NDB3 (io), 4 GAB2/IO173PDB3 (io), 5 IO173NDB3 (io), 6 GAC2/IO172PDB3 (io), 7 IO172NDB3 (io), 8 IO171PDB3 (io), 9 IO171NDB3 (io), 10 IO170PDB3 (io), 11 IO170NDB3 (io), 12 IO169PDB3 (io), 13 IO169NDB3 (io), 14 IO168PDB3 (io), 15 IO168NDB3 (io), 19 IO166PDB3 (io), 20 IO166NDB3 (io), 21 GFC1/IO164PDB3 (io), 22 GFC0/IO164NDB3 (io), 23 GFB1/IO163PDB3 (io), 24 GFB0/IO163NDB3 (io), 26 GFA0/IO162NPB3 (io), 28 GFA1/IO162PPB3 (io), 30 GFA2/IO161PDB3 (io), 31 IO161NDB3 (io), 32 GFB2/IO160PDB3 (io), 33 IO160NDB3 (io), 34 GFC2/IO159PDB3 (io), 35 IO159NDB3 (io), 37 IO152PDB3 (io), 38 IO152NDB3 (io), 39 IO150PSB3 (io), 42 IO147PDB3 (io), 43 IO147NDB3 (io), 44 GEC1/IO146PDB3 (io), 45 GEC0/IO146NDB3 (io), 46 GEB1/IO145PDB3 (io), 47 GEB0/IO145NDB3 (io), 48 GEA1/IO144PDB3 (io), 49 GEA0/IO144NDB3 (io)
part E pins: 101 TCK (in), 102 TDI (in), 103 TMS (in), 108 TDO (out), 109 TRST (in), 126 NC
part F pins: 16 VCC (power), 18 VCCIB3 (power), 36 VCC (power), 40 VCCIB3 (power), 50 VMV3 (power), 53 VMV2 (power), 62 VCCIB2 (power), 71 VCC (power), 72 VCCIB2 (power), 88 VCC (power), 89 VCCIB2 (power), 104 VMV2 (power), 106 VPUMP (power), 110 VJTAG (power), 123 VCCIB1 (power), 140 VCCIB1 (power), 142 VCC (power), 154 VMV1 (power), 157 VMV0 (power), 170 VCCIB0 (power), 171 VCC (power), 186 VCCIB0 (power), 187 VCC (power), 200 VCCIB0 (power), 208 VMV0 (power)
part G pins: 1 GND (power), 17 GND (power), 29 GND (power), 41 GND (power), 51 GNDQ (power), 52 GND (power), 65 GND (power), 81 GND (power), 97 GND (power), 100 GNDQ (power), 105 GND (power), 107 GNDQ (power), 122 GND (power), 130 GND (power), 141 GND (power), 155 GNDQ (power), 156 GND (power), 162 GND (power), 178 GND (power), 195 GND (power), 207 GNDQ (power)
part H pins: 25 VCOMPLF (power), 27 VCCPLF (power)
part A text: BANK 0
part B text: BANK 1
part C text: BANK 2
part D text: BANK 3

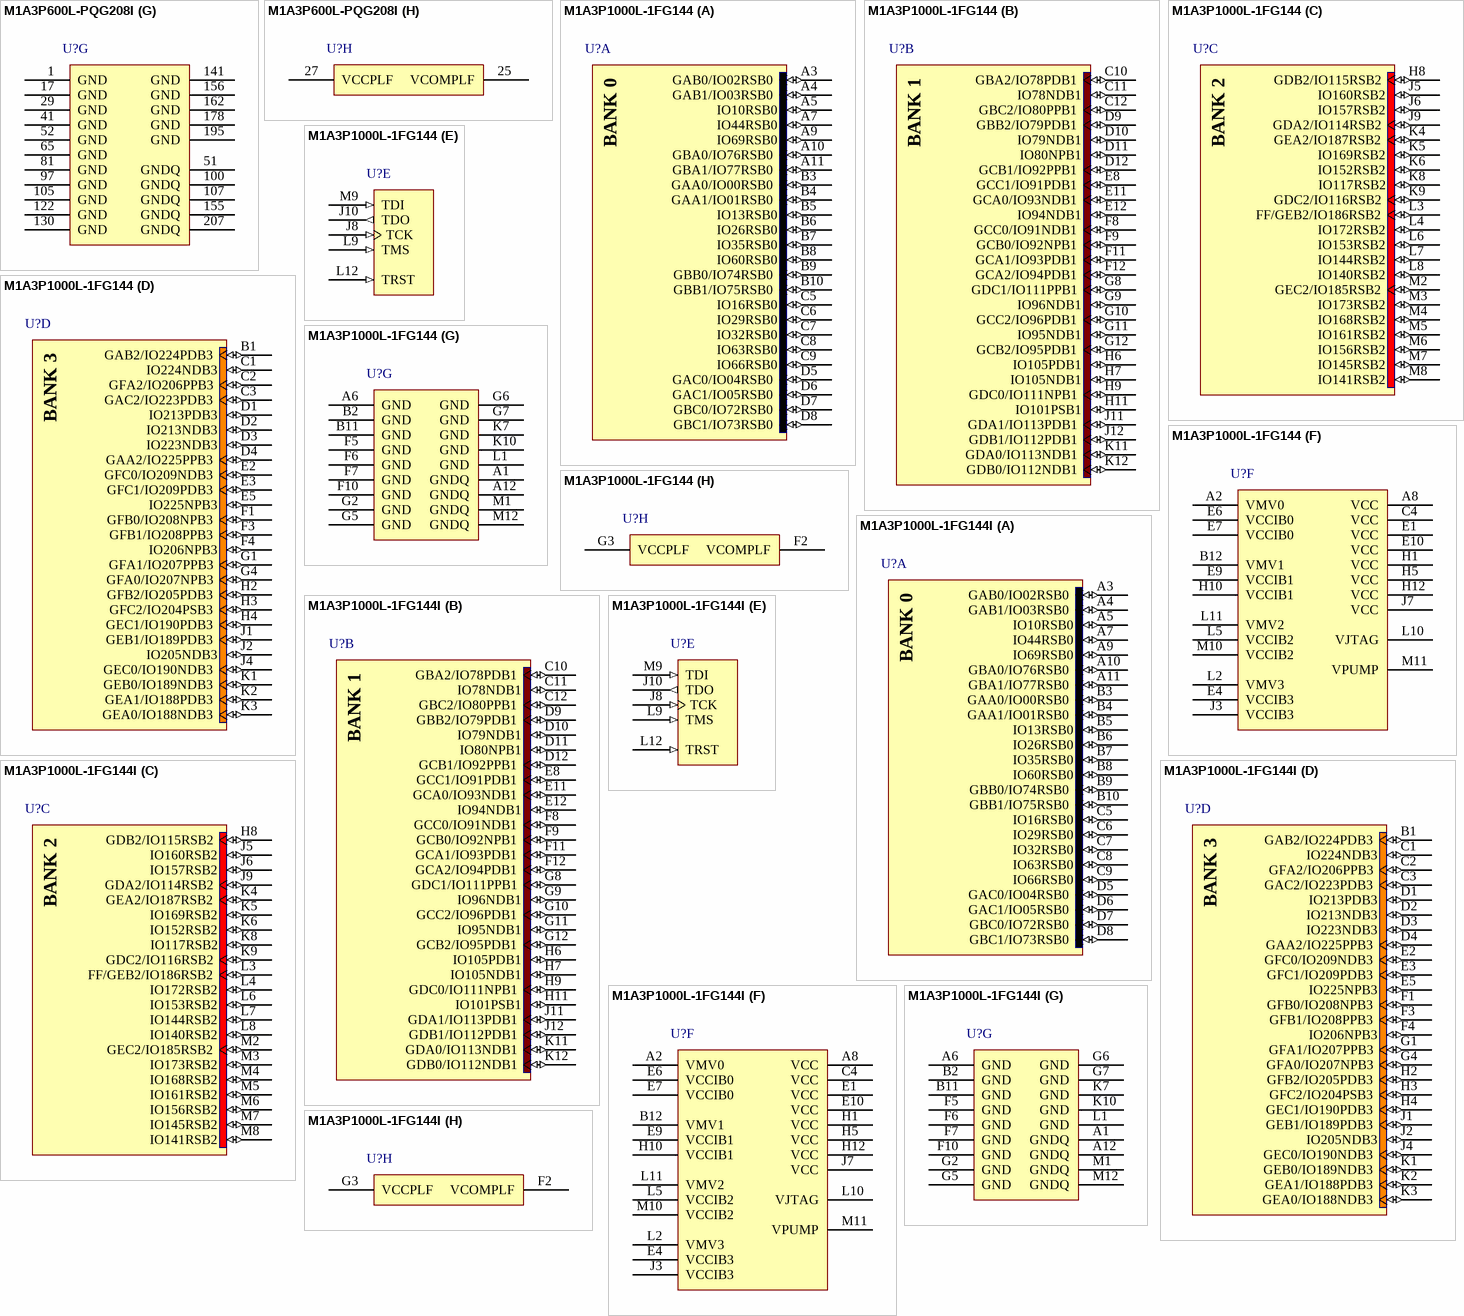
[diagram p146: symbols M1A3P600L-PQG208I to M1A3P1000L-1FG144I]

## M1A3P600L-PQG208I
designator U?
ProASIC3L Low-Power Flash Family FPGA, 154 User IOs, 600K System Gates, 108 Kbits RAM, 1 Kbit FlashROM, 1PLL, 208-Pin PQFP, Industrial Grade, Pb-Free; Published: 30-May-2008; DatasheetVersion: Jan-2008; PackageVersion: v10.0, Mar-2008; PackageReference: PQ208; Publisher: Altium Limited; PackageDescription: 208-Pin Plastic Quad Flat Pack (PQ208); Code_JEDEC: MS-029-FA-1; ComponentLink1Description: Manufacturer Link; ComponentLink1URL: http://www.actel.com/products/pa3l/default.aspx; ComponentLink2Description: Datasheet; ComponentLink2URL: http://www.actel.com/documents/PA3L_DS.pdf; ComponentLink3Description: Packaging Specification; ComponentLink3URL: http://www.actel.com/documents/PckgMechDrwngs.pdf
footprint PQ208_N (Shrink QFP, 208-Leads, Body 28x28mm, Pitch 0.5mm, IPC Medium Density)
footprint PQ208_L (Shrink QFP, 208-Leads, Body 28x28mm, Pitch 0.5mm, IPC High Density)
footprint PQ208_M (Shrink QFP, 208-Leads, Body 28x28mm, Pitch 0.5mm, IPC Low Density)
3D model M1A3P600L-PQ208 (208-Pin Plastic Quad Flat Pack (PQ208))
signal-integrity model A3P600L_PQ208 (ProASIC3L)
part A pins: 158 GBA1/IO59RSB0 (io), 159 GBA0/IO58RSB0 (io), 160 GBB1/IO57RSB0 (io), 161 GBB0/IO56RSB0 (io), 163 GBC1/IO55RSB0 (io), 164 GBC0/IO54RSB0 (io), 165 IO52RSB0 (io), 166 IO50RSB0 (io), 167 IO48RSB0 (io), 168 IO46RSB0 (io), 169 IO44RSB0 (io), 172 IO36RSB0 (io), 173 IO35RSB0 (io), 174 IO34RSB0 (io), 175 IO33RSB0 (io), 176 IO32RSB0 (io), 177 IO31RSB0 (io), 179 IO29RSB0 (io), 180 IO28RSB0 (io), 181 IO27RSB0 (io), 182 IO26RSB0 (io), 183 IO25RSB0 (io), 184 IO24RSB0 (io), 185 IO23RSB0 (io), 188 IO20RSB0 (io), 189 IO19RSB0 (io), 190 IO18RSB0 (io), 191 IO17RSB0 (io), 192 IO16RSB0 (io), 193 IO14RSB0 (io), 194 IO12RSB0 (io), 196 IO10RSB0 (io), 197 IO09RSB0 (io), 198 IO08RSB0 (io), 199 IO07RSB0 (io), 201 GAC1/IO05RSB0 (io), 202 GAC0/IO04RSB0 (io), 203 GAB1/IO03RSB0 (io), 204 GAB0/IO02RSB0 (io), 205 GAA1/IO01RSB0 (io), 206 GAA0/IO00RSB0 (io)
part B pins: 111 GDA0/IO88NDB1 (io), 112 GDA1/IO88PDB1 (io), 113 GDB0/IO87NDB1 (io), 114 GDB1/IO87PDB1 (io), 115 GDC0/IO86NDB1 (io), 116 GDC1/IO86PDB1 (io), 117 IO84NDB1 (io), 118 IO84PDB1 (io), 119 IO82NDB1 (io), 120 IO82PDB1 (io), 121 IO81PSB1 (io), 124 IO77NDB1 (io), 125 IO77PDB1 (io), 127 IO74NDB1 (io), 128 GCC2/IO74PDB1 (io), 129 GCB2/IO73PSB1 (io), 131 GCA2/IO72PSB1 (io), 132 GCA1/IO71PDB1 (io), 133 GCA0/IO71NDB1 (io), 134 GCB0/IO70NDB1 (io), 135 GCB1/IO70PDB1 (io), 136 GCC0/IO69NDB1 (io), 137 GCC1/IO69PDB1 (io), 138 IO67NDB1 (io), 139 IO67PDB1 (io), 143 IO65PSB1 (io), 144 IO64NDB1 (io), 145 IO64PDB1 (io), 146 IO63NDB1 (io), 147 IO63PDB1 (io), 148 IO62NDB1 (io), 149 GBC2/IO62PDB1 (io), 150 IO61NDB1 (io), 151 GBB2/IO61PDB1 (io), 152 IO60NDB1 (io), 153 GBA2/IO60PDB1 (io)
part C pins: 54 GEA2/IO143RSB2 (io), 55 FF/GEB2/IO142RSB2 (io), 56 GEC2/IO141RSB2 (io), 57 IO140RSB2 (io), 58 IO139RSB2 (io), 59 IO138RSB2 (io), 60 IO137RSB2 (io), 61 IO136RSB2 (io), 63 IO135RSB2 (io), 64 IO133RSB2 (io), 66 IO131RSB2 (io), 67 IO129RSB2 (io), 68 IO127RSB2 (io), 69 IO125RSB2 (io), 70 IO123RSB2 (io), 73 IO120RSB2 (io), 74 IO119RSB2 (io), 75 IO118RSB2 (io), 76 IO117RSB2 (io), 77 IO116RSB2 (io), 78 IO115RSB2 (io), 79 IO114RSB2 (io), 80 IO112RSB2 (io), 82 IO111RSB2 (io), 83 IO110RSB2 (io), 84 IO109RSB2 (io), 85 IO108RSB2 (io), 86 IO107RSB2 (io), 87 IO106RSB2 (io), 90 IO104RSB2 (io), 91 IO102RSB2 (io), 92 IO100RSB2 (io), 93 IO98RSB2 (io), 94 IO96RSB2 (io), 95 IO92RSB2 (io), 96 GDC2/IO91RSB2 (io), 98 GDB2/IO90RSB2 (io), 99 GDA2/IO89RSB2 (io)
part D pins: 2 GAA2/IO174PDB3 (io), 3 IO174NDB3 (io), 4 GAB2/IO173PDB3 (io), 5 IO173NDB3 (io), 6 GAC2/IO172PDB3 (io), 7 IO172NDB3 (io), 8 IO171PDB3 (io), 9 IO171NDB3 (io), 10 IO170PDB3 (io), 11 IO170NDB3 (io), 12 IO169PDB3 (io), 13 IO169NDB3 (io), 14 IO168PDB3 (io), 15 IO168NDB3 (io), 19 IO166PDB3 (io), 20 IO166NDB3 (io), 21 GFC1/IO164PDB3 (io), 22 GFC0/IO164NDB3 (io), 23 GFB1/IO163PDB3 (io), 24 GFB0/IO163NDB3 (io), 26 GFA0/IO162NPB3 (io), 28 GFA1/IO162PPB3 (io), 30 GFA2/IO161PDB3 (io), 31 IO161NDB3 (io), 32 GFB2/IO160PDB3 (io), 33 IO160NDB3 (io), 34 GFC2/IO159PDB3 (io), 35 IO159NDB3 (io), 37 IO152PDB3 (io), 38 IO152NDB3 (io), 39 IO150PSB3 (io), 42 IO147PDB3 (io), 43 IO147NDB3 (io), 44 GEC1/IO146PDB3 (io), 45 GEC0/IO146NDB3 (io), 46 GEB1/IO145PDB3 (io), 47 GEB0/IO145NDB3 (io), 48 GEA1/IO144PDB3 (io), 49 GEA0/IO144NDB3 (io)
part E pins: 101 TCK (in), 102 TDI (in), 103 TMS (in), 108 TDO (out), 109 TRST (in), 126 NC
part F pins: 16 VCC (power), 18 VCCIB3 (power), 36 VCC (power), 40 VCCIB3 (power), 50 VMV3 (power), 53 VMV2 (power), 62 VCCIB2 (power), 71 VCC (power), 72 VCCIB2 (power), 88 VCC (power), 89 VCCIB2 (power), 104 VMV2 (power), 106 VPUMP (power), 110 VJTAG (power), 123 VCCIB1 (power), 140 VCCIB1 (power), 142 VCC (power), 154 VMV1 (power), 157 VMV0 (power), 170 VCCIB0 (power), 171 VCC (power), 186 VCCIB0 (power), 187 VCC (power), 200 VCCIB0 (power), 208 VMV0 (power)
part G pins: 1 GND (power), 17 GND (power), 29 GND (power), 41 GND (power), 51 GNDQ (power), 52 GND (power), 65 GND (power), 81 GND (power), 97 GND (power), 100 GNDQ (power), 105 GND (power), 107 GNDQ (power), 122 GND (power), 130 GND (power), 141 GND (power), 155 GNDQ (power), 156 GND (power), 162 GND (power), 178 GND (power), 195 GND (power), 207 GNDQ (power)
part H pins: 25 VCOMPLF (power), 27 VCCPLF (power)
part A text: BANK 0
part B text: BANK 1
part C text: BANK 2
part D text: BANK 3

## M1A3P1000L-1FG144
designator U?
ProASIC3L Low-Power Flash Family FPGA, 97 User IOs, 1M System Gates, 144 Kbits RAM, 1 Kbit FlashROM, 1PLL, 144-Ball FBGA, Commercial Grade; Published: 30-May-2008; DatasheetVersion: Jan-2008; PackageVersion: v10.0, Mar-2008; PackageReference: FG144; Publisher: Altium Limited; PackageDescription: 144-Ball Fine Pitch Plastic Ball Grid Array (FG144); Code_JEDEC: MS-034-AAP-1; ComponentLink1Description: Manufacturer Link; ComponentLink1URL: http://www.actel.com/products/pa3l/default.aspx; ComponentLink2Description: Datasheet; ComponentLink2URL: http://www.actel.com/documents/PA3L_DS.pdf; ComponentLink3Description: Packaging Specification; ComponentLink3URL: http://www.actel.com/documents/PckgMechDrwngs.pdf
footprint FG144 (BGA, 144-Leads, Body 13x13mm, Pitch 1mm)
3D model M1A3P1000L-FG144 (144-Ball Fine Pitch Plastic Ball Grid Array (FG144))
signal-integrity model A3P1000L_FG144 (ProASIC3L)
part A pins: A3 GAB0/IO02RSB0 (io), A4 GAB1/IO03RSB0 (io), A5 IO10RSB0 (io), A7 IO44RSB0 (io), A9 IO69RSB0 (io), A10 GBA0/IO76RSB0 (io), A11 GBA1/IO77RSB0 (io), B3 GAA0/IO00RSB0 (io), B4 GAA1/IO01RSB0 (io), B5 IO13RSB0 (io), B6 IO26RSB0 (io), B7 IO35RSB0 (io), B8 IO60RSB0 (io), B9 GBB0/IO74RSB0 (io), B10 GBB1/IO75RSB0 (io), C5 IO16RSB0 (io), C6 IO29RSB0 (io), C7 IO32RSB0 (io), C8 IO63RSB0 (io), C9 IO66RSB0 (io), D5 GAC0/IO04RSB0 (io), D6 GAC1/IO05RSB0 (io), D7 GBC0/IO72RSB0 (io), D8 GBC1/IO73RSB0 (io)
part B pins: C10 GBA2/IO78PDB1 (io), C11 IO78NDB1 (io), C12 GBC2/IO80PPB1 (io), D9 GBB2/IO79PDB1 (io), D10 IO79NDB1 (io), D11 IO80NPB1 (io), D12 GCB1/IO92PPB1 (io), E8 GCC1/IO91PDB1 (io), E11 GCA0/IO93NDB1 (io), E12 IO94NDB1 (io), F8 GCC0/IO91NDB1 (io), F9 GCB0/IO92NPB1 (io), F11 GCA1/IO93PDB1 (io), F12 GCA2/IO94PDB1 (io), G8 GDC1/IO111PPB1 (io), G9 IO96NDB1 (io), G10 GCC2/IO96PDB1 (io), G11 IO95NDB1 (io), G12 GCB2/IO95PDB1 (io), H6 IO105PDB1 (io), H7 IO105NDB1 (io), H9 GDC0/IO111NPB1 (io), H11 IO101PSB1 (io), J11 GDA1/IO113PDB1 (io), J12 GDB1/IO112PDB1 (io), K11 GDA0/IO113NDB1 (io), K12 GDB0/IO112NDB1 (io)
part C pins: H8 GDB2/IO115RSB2 (io), J5 IO160RSB2 (io), J6 IO157RSB2 (io), J9 GDA2/IO114RSB2 (io), K4 GEA2/IO187RSB2 (io), K5 IO169RSB2 (io), K6 IO152RSB2 (io), K8 IO117RSB2 (io), K9 GDC2/IO116RSB2 (io), L3 FF/GEB2/IO186RSB2 (io), L4 IO172RSB2 (io), L6 IO153RSB2 (io), L7 IO144RSB2 (io), L8 IO140RSB2 (io), M2 GEC2/IO185RSB2 (io), M3 IO173RSB2 (io), M4 IO168RSB2 (io), M5 IO161RSB2 (io), M6 IO156RSB2 (io), M7 IO145RSB2 (io), M8 IO141RSB2 (io)
part D pins: B1 GAB2/IO224PDB3 (io), C1 IO224NDB3 (io), C2 GFA2/IO206PPB3 (io), C3 GAC2/IO223PDB3 (io), D1 IO213PDB3 (io), D2 IO213NDB3 (io), D3 IO223NDB3 (io), D4 GAA2/IO225PPB3 (io), E2 GFC0/IO209NDB3 (io), E3 GFC1/IO209PDB3 (io), E5 IO225NPB3 (io), F1 GFB0/IO208NPB3 (io), F3 GFB1/IO208PPB3 (io), F4 IO206NPB3 (io), G1 GFA1/IO207PPB3 (io), G4 GFA0/IO207NPB3 (io), H2 GFB2/IO205PDB3 (io), H3 GFC2/IO204PSB3 (io), H4 GEC1/IO190PDB3 (io), J1 GEB1/IO189PDB3 (io), J2 IO205NDB3 (io), J4 GEC0/IO190NDB3 (io), K1 GEB0/IO189NDB3 (io), K2 GEA1/IO188PDB3 (io), K3 GEA0/IO188NDB3 (io)
part E pins: J8 TCK (in), J10 TDO (out), L9 TMS (in), L12 TRST (in), M9 TDI (in)
part F pins: A2 VMV0 (power), A8 VCC (power), B12 VMV1 (power), C4 VCC (power), E1 VCC (power), E4 VCCIB3 (power), E6 VCCIB0 (power), E7 VCCIB0 (power), E9 VCCIB1 (power), E10 VCC (power), H1 VCC (power), H5 VCC (power), H10 VCCIB1 (power), H12 VCC (power), J3 VCCIB3 (power), J7 VCC (power), L2 VMV3 (power), L5 VCCIB2 (power), L10 VJTAG (power), L11 VMV2 (power), M10 VCCIB2 (power), M11 VPUMP (power)
part G pins: A1 GNDQ (power), A6 GND (power), A12 GNDQ (power), B2 GND (power), B11 GND (power), F5 GND (power), F6 GND (power), F7 GND (power), F10 GND (power), G2 GND (power), G5 GND (power), G6 GND (power), G7 GND (power), K7 GND (power), K10 GND (power), L1 GND (power), M1 GNDQ (power), M12 GNDQ (power)
part H pins: F2 VCOMPLF (power), G3 VCCPLF (power)
part A text: BANK 0
part B text: BANK 1
part C text: BANK 2
part D text: BANK 3

## M1A3P1000L-1FG144I
designator U?
ProASIC3L Low-Power Flash Family FPGA, 97 User IOs, 1M System Gates, 144 Kbits RAM, 1 Kbit FlashROM, 1PLL, 144-Ball FBGA, Industrial Grade; Published: 30-May-2008; DatasheetVersion: Jan-2008; PackageVersion: v10.0, Mar-2008; PackageReference: FG144; Publisher: Altium Limited; PackageDescription: 144-Ball Fine Pitch Plastic Ball Grid Array (FG144); Code_JEDEC: MS-034-AAP-1; ComponentLink1Description: Manufacturer Link; ComponentLink1URL: http://www.actel.com/products/pa3l/default.aspx; ComponentLink2Description: Datasheet; ComponentLink2URL: http://www.actel.com/documents/PA3L_DS.pdf; ComponentLink3Description: Packaging Specification; ComponentLink3URL: http://www.actel.com/documents/PckgMechDrwngs.pdf
footprint FG144 (BGA, 144-Leads, Body 13x13mm, Pitch 1mm)
3D model M1A3P1000L-FG144 (144-Ball Fine Pitch Plastic Ball Grid Array (FG144))
signal-integrity model A3P1000L_FG144 (ProASIC3L)
part A pins: A3 GAB0/IO02RSB0 (io), A4 GAB1/IO03RSB0 (io), A5 IO10RSB0 (io), A7 IO44RSB0 (io), A9 IO69RSB0 (io), A10 GBA0/IO76RSB0 (io), A11 GBA1/IO77RSB0 (io), B3 GAA0/IO00RSB0 (io), B4 GAA1/IO01RSB0 (io), B5 IO13RSB0 (io), B6 IO26RSB0 (io), B7 IO35RSB0 (io), B8 IO60RSB0 (io), B9 GBB0/IO74RSB0 (io), B10 GBB1/IO75RSB0 (io), C5 IO16RSB0 (io), C6 IO29RSB0 (io), C7 IO32RSB0 (io), C8 IO63RSB0 (io), C9 IO66RSB0 (io), D5 GAC0/IO04RSB0 (io), D6 GAC1/IO05RSB0 (io), D7 GBC0/IO72RSB0 (io), D8 GBC1/IO73RSB0 (io)
part B pins: C10 GBA2/IO78PDB1 (io), C11 IO78NDB1 (io), C12 GBC2/IO80PPB1 (io), D9 GBB2/IO79PDB1 (io), D10 IO79NDB1 (io), D11 IO80NPB1 (io), D12 GCB1/IO92PPB1 (io), E8 GCC1/IO91PDB1 (io), E11 GCA0/IO93NDB1 (io), E12 IO94NDB1 (io), F8 GCC0/IO91NDB1 (io), F9 GCB0/IO92NPB1 (io), F11 GCA1/IO93PDB1 (io), F12 GCA2/IO94PDB1 (io), G8 GDC1/IO111PPB1 (io), G9 IO96NDB1 (io), G10 GCC2/IO96PDB1 (io), G11 IO95NDB1 (io), G12 GCB2/IO95PDB1 (io), H6 IO105PDB1 (io), H7 IO105NDB1 (io), H9 GDC0/IO111NPB1 (io), H11 IO101PSB1 (io), J11 GDA1/IO113PDB1 (io), J12 GDB1/IO112PDB1 (io), K11 GDA0/IO113NDB1 (io), K12 GDB0/IO112NDB1 (io)
part C pins: H8 GDB2/IO115RSB2 (io), J5 IO160RSB2 (io), J6 IO157RSB2 (io), J9 GDA2/IO114RSB2 (io), K4 GEA2/IO187RSB2 (io), K5 IO169RSB2 (io), K6 IO152RSB2 (io), K8 IO117RSB2 (io), K9 GDC2/IO116RSB2 (io), L3 FF/GEB2/IO186RSB2 (io), L4 IO172RSB2 (io), L6 IO153RSB2 (io), L7 IO144RSB2 (io), L8 IO140RSB2 (io), M2 GEC2/IO185RSB2 (io), M3 IO173RSB2 (io), M4 IO168RSB2 (io), M5 IO161RSB2 (io), M6 IO156RSB2 (io), M7 IO145RSB2 (io), M8 IO141RSB2 (io)
part D pins: B1 GAB2/IO224PDB3 (io), C1 IO224NDB3 (io), C2 GFA2/IO206PPB3 (io), C3 GAC2/IO223PDB3 (io), D1 IO213PDB3 (io), D2 IO213NDB3 (io), D3 IO223NDB3 (io), D4 GAA2/IO225PPB3 (io), E2 GFC0/IO209NDB3 (io), E3 GFC1/IO209PDB3 (io), E5 IO225NPB3 (io), F1 GFB0/IO208NPB3 (io), F3 GFB1/IO208PPB3 (io), F4 IO206NPB3 (io), G1 GFA1/IO207PPB3 (io), G4 GFA0/IO207NPB3 (io), H2 GFB2/IO205PDB3 (io), H3 GFC2/IO204PSB3 (io), H4 GEC1/IO190PDB3 (io), J1 GEB1/IO189PDB3 (io), J2 IO205NDB3 (io), J4 GEC0/IO190NDB3 (io), K1 GEB0/IO189NDB3 (io), K2 GEA1/IO188PDB3 (io), K3 GEA0/IO188NDB3 (io)
part E pins: J8 TCK (in), J10 TDO (out), L9 TMS (in), L12 TRST (in), M9 TDI (in)
part F pins: A2 VMV0 (power), A8 VCC (power), B12 VMV1 (power), C4 VCC (power), E1 VCC (power), E4 VCCIB3 (power), E6 VCCIB0 (power), E7 VCCIB0 (power), E9 VCCIB1 (power), E10 VCC (power), H1 VCC (power), H5 VCC (power), H10 VCCIB1 (power), H12 VCC (power), J3 VCCIB3 (power), J7 VCC (power), L2 VMV3 (power), L5 VCCIB2 (power), L10 VJTAG (power), L11 VMV2 (power), M10 VCCIB2 (power), M11 VPUMP (power)
part G pins: A1 GNDQ (power), A6 GND (power), A12 GNDQ (power), B2 GND (power), B11 GND (power), F5 GND (power), F6 GND (power), F7 GND (power), F10 GND (power), G2 GND (power), G5 GND (power), G6 GND (power), G7 GND (power), K7 GND (power), K10 GND (power), L1 GND (power), M1 GNDQ (power), M12 GNDQ (power)
part H pins: F2 VCOMPLF (power), G3 VCCPLF (power)
part A text: BANK 0
part B text: BANK 1
part C text: BANK 2
part D text: BANK 3

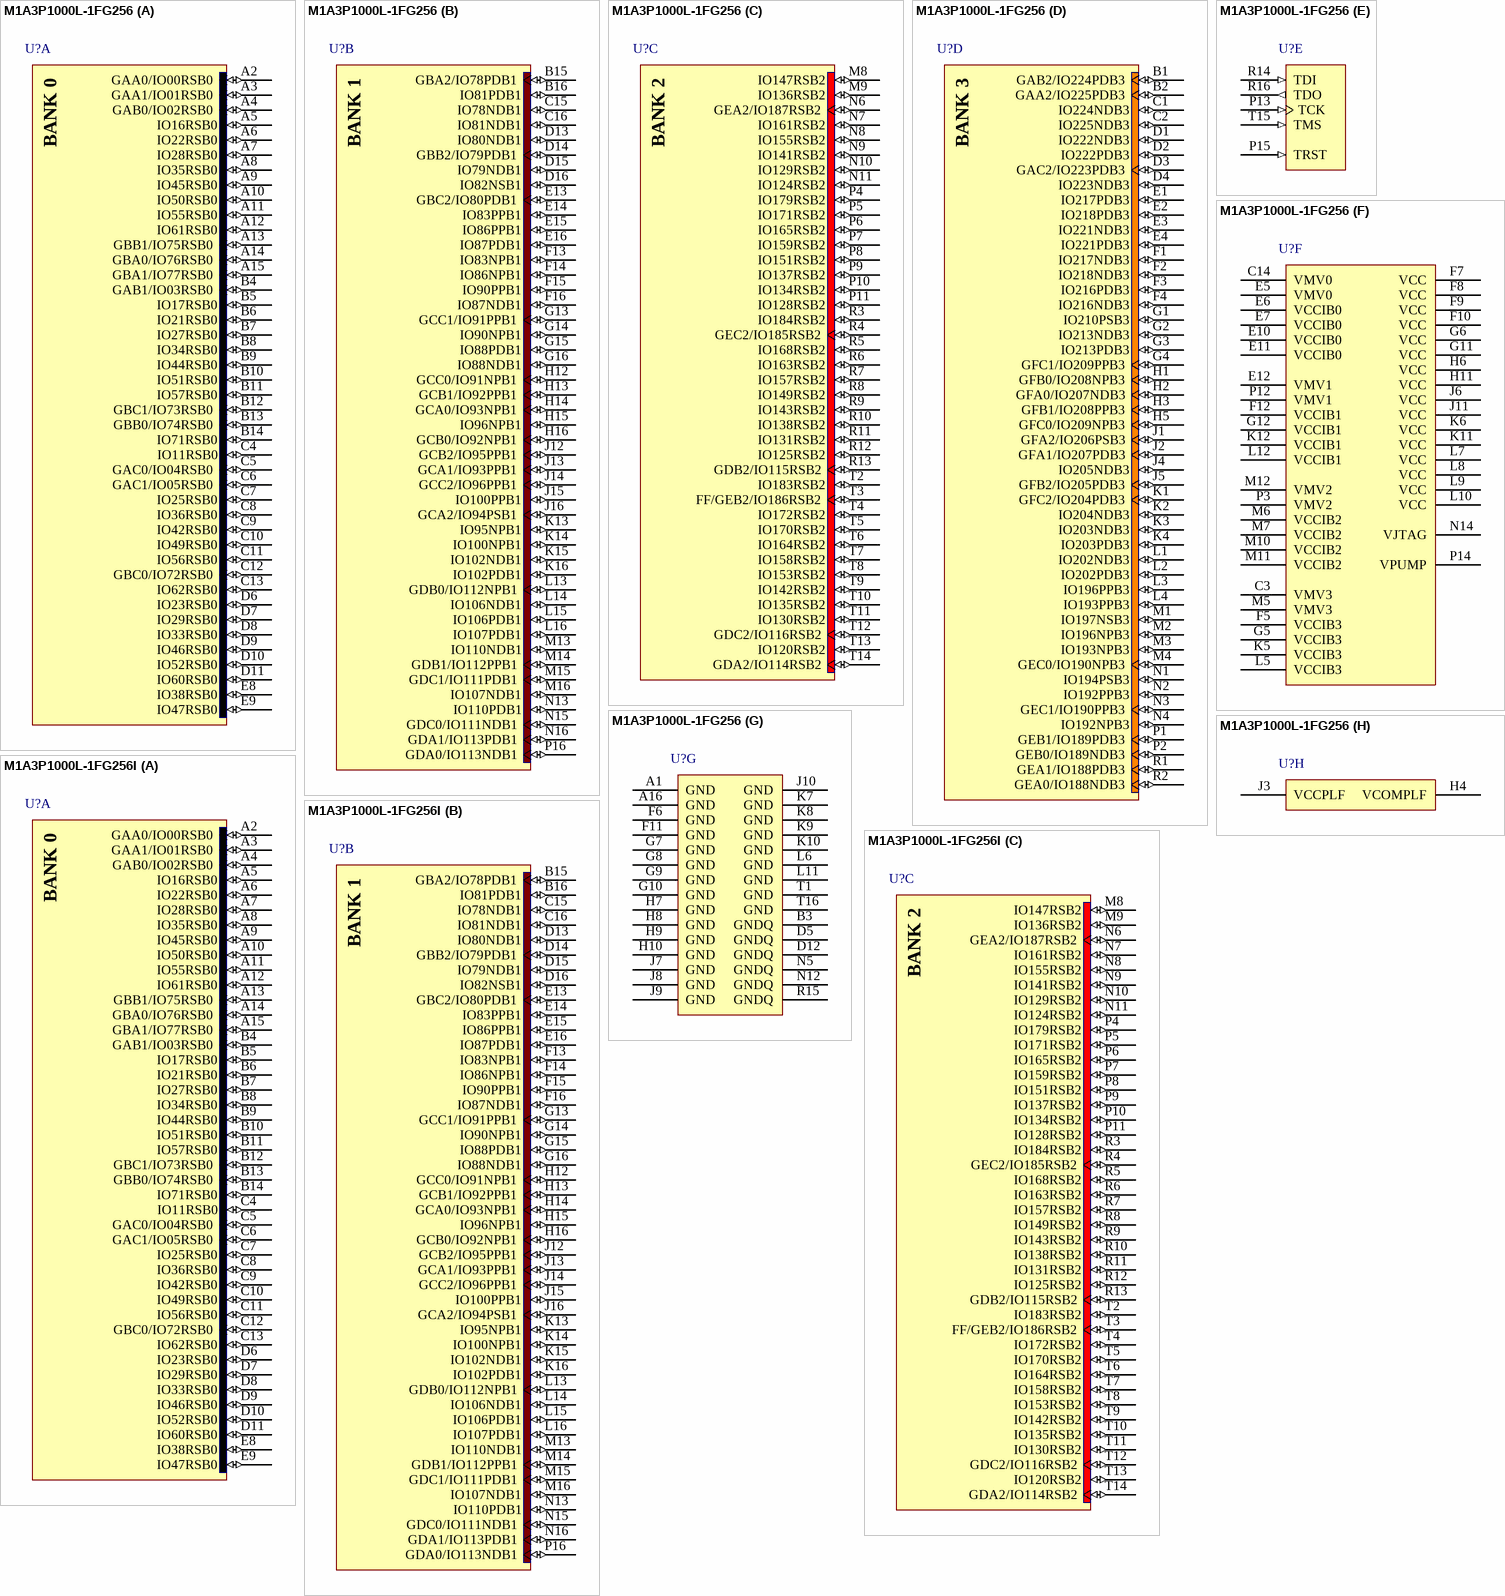
[diagram p147: symbols M1A3P1000L-1FG256 to M1A3P1000L-1FG256I]